# Altium integrated library Altera MAX V.IntLib: 184 symbols (part 9 of 16)
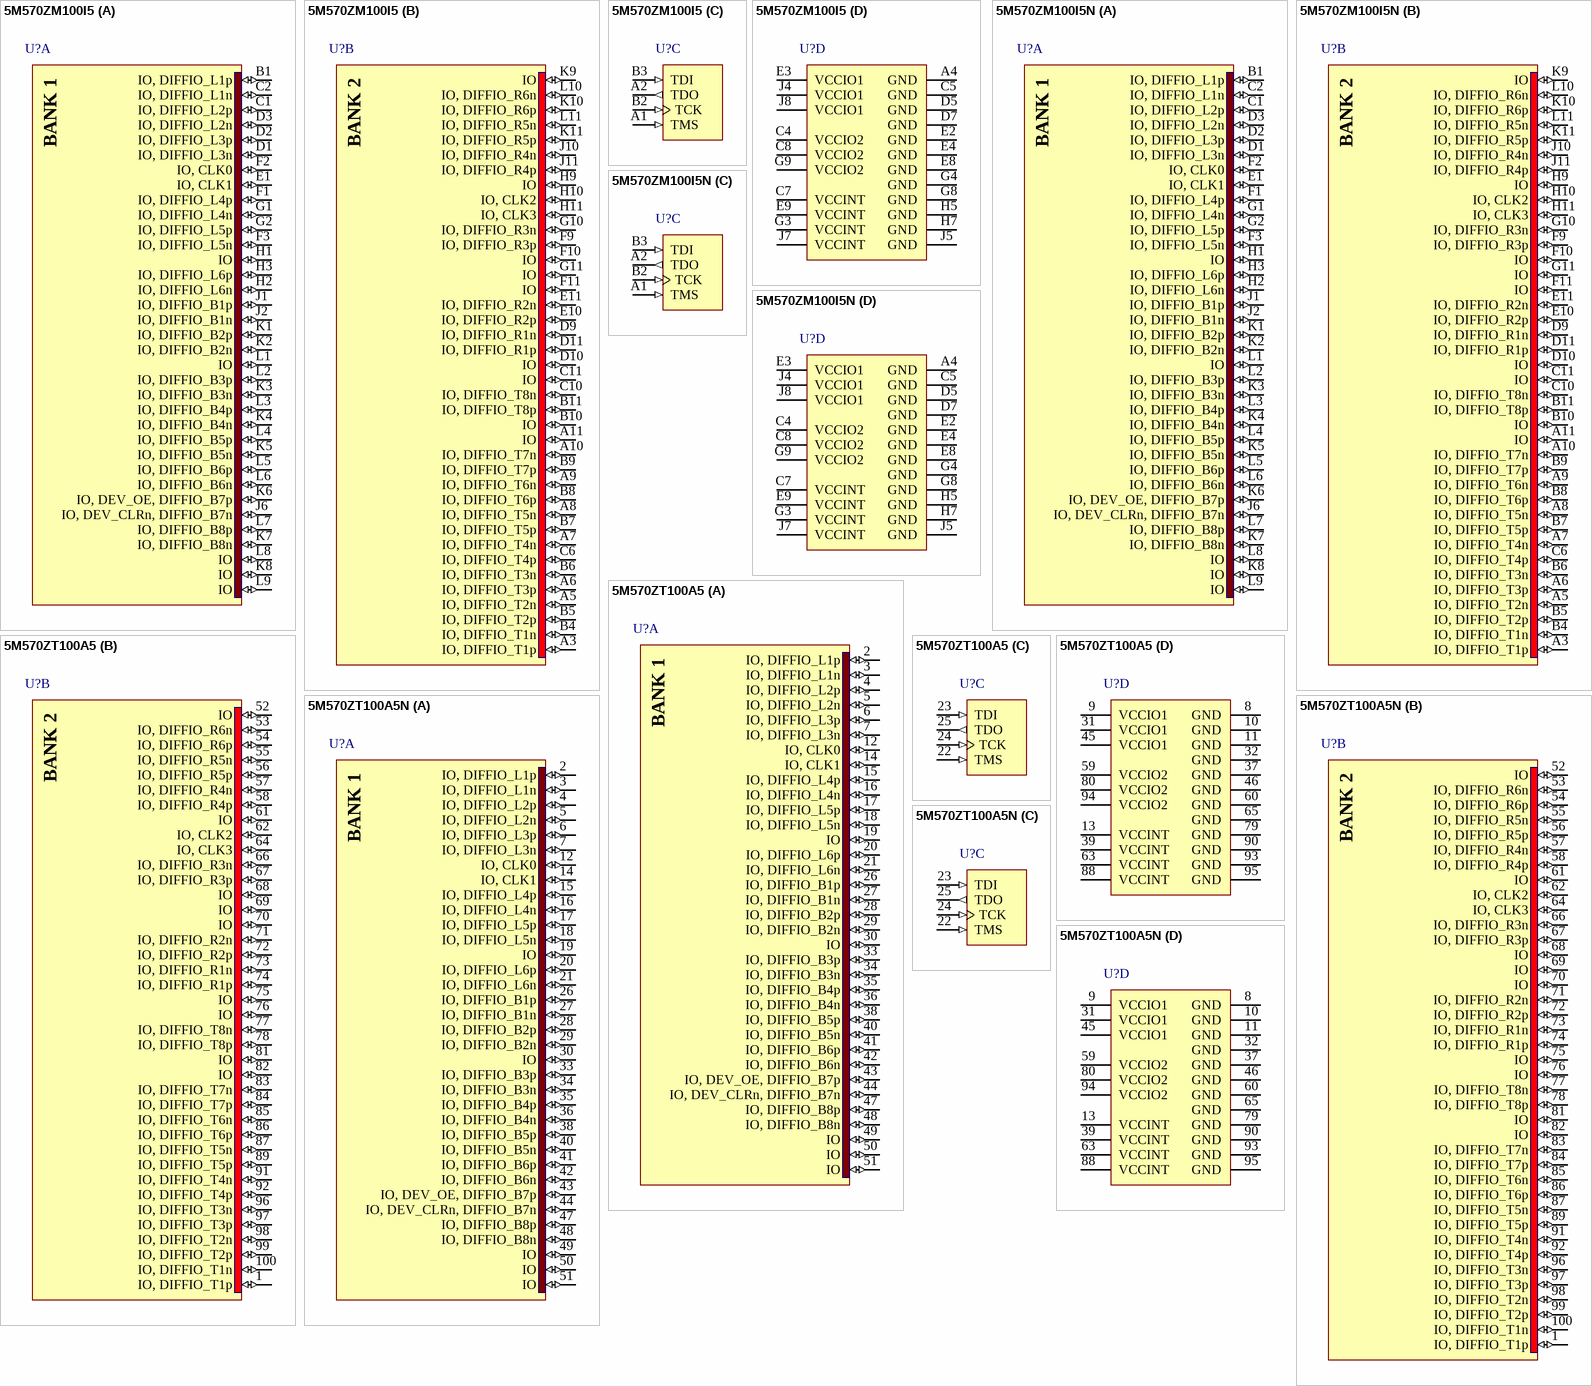
[diagram p85: symbols 5M570ZM100I5 to 5M570ZT100A5N]

## 5M570ZM100I5
designator U?
MAX V 1.8V CPLD, 74 IOs, 570 Logic Elements, 100-Pin MBGA, Industrial Temperature, Speed Grade 5; DatasheetVersion: ver1.2, May-2011; PackageVersion: ver1.0, Jul-2011; PackageReference: MBGA100_A-120; PackageDescription: 100-Pin Micro FineLine Ball-Grid Array (MBGA100) - Wire Bond - A:1.20; Code_JEDEC: MO-195-AC; ComponentLink1Description: Manufacturer URL; ComponentLink1URL: http://www.altera.com/; ComponentLink2Description: Datasheet; ComponentLink2URL: http://www.altera.com/literature/hb/max-v/max5_handbook.pdf; ComponentLink3Description: MAX V Device Pin-Out files; ComponentLink3URL: http://www.altera.com/literature/lit-dp.jsp?category=MAX%205&showspreadsheet=y; ComponentLink4Description: Package Specification; ComponentLink4URL: http://www.altera.com/devicepackaging/04R00345-01.pdf
footprint MBGA100_A-120 (BGA, 100-Leads, Body 6x6mm, Pitch 0.5mm)
part A pins: B1 IO, DIFFIO_L1p (io), C1 IO, DIFFIO_L2p (io), C2 IO, DIFFIO_L1n (io), D1 IO, DIFFIO_L3n (io), D2 IO, DIFFIO_L3p (io), D3 IO, DIFFIO_L2n (io), E1 IO, CLK1 (io), F1 IO, DIFFIO_L4p (io), F2 IO, CLK0 (io), F3 IO, DIFFIO_L5n (io), G1 IO, DIFFIO_L4n (io), G2 IO, DIFFIO_L5p (io), H1 IO (io), H2 IO, DIFFIO_L6n (io), H3 IO, DIFFIO_L6p (io), J1 IO, DIFFIO_B1p (io), J2 IO, DIFFIO_B1n (io), J6 IO, DEV_CLRn, DIFFIO_B7n (io), K1 IO, DIFFIO_B2p (io), K2 IO, DIFFIO_B2n (io), K3 IO, DIFFIO_B3n (io), K4 IO, DIFFIO_B4n (io), K5 IO, DIFFIO_B5n (io), K6 IO, DEV_OE, DIFFIO_B7p (io), K7 IO, DIFFIO_B8n (io), K8 IO (io), L1 IO (io), L2 IO, DIFFIO_B3p (io), L3 IO, DIFFIO_B4p (io), L4 IO, DIFFIO_B5p (io), L5 IO, DIFFIO_B6p (io), L6 IO, DIFFIO_B6n (io), L7 IO, DIFFIO_B8p (io), L8 IO (io), L9 IO (io)
part B pins: A3 IO, DIFFIO_T1p (io), A5 IO, DIFFIO_T2n (io), A6 IO, DIFFIO_T3p (io), A7 IO, DIFFIO_T4n (io), A8 IO, DIFFIO_T5n (io), A9 IO, DIFFIO_T6n (io), A10 IO, DIFFIO_T7n (io), A11 IO (io), B4 IO, DIFFIO_T1n (io), B5 IO, DIFFIO_T2p (io), B6 IO, DIFFIO_T3n (io), B7 IO, DIFFIO_T5p (io), B8 IO, DIFFIO_T6p (io), B9 IO, DIFFIO_T7p (io), B10 IO (io), B11 IO, DIFFIO_T8p (io), C6 IO, DIFFIO_T4p (io), C10 IO, DIFFIO_T8n (io), C11 IO (io), D9 IO, DIFFIO_R1n (io), D10 IO (io), D11 IO, DIFFIO_R1p (io), E10 IO, DIFFIO_R2p (io), E11 IO, DIFFIO_R2n (io), F9 IO, DIFFIO_R3p (io), F10 IO (io), F11 IO (io), G10 IO, DIFFIO_R3n (io), G11 IO (io), H9 IO (io), H10 IO, CLK2 (io), H11 IO, CLK3 (io), J10 IO, DIFFIO_R4n (io), J11 IO, DIFFIO_R4p (io), K9 IO (io), K10 IO, DIFFIO_R6p (io), K11 IO, DIFFIO_R5p (io), L10 IO, DIFFIO_R6n (io), L11 IO, DIFFIO_R5n (io)
part C pins: A1 TMS (in), A2 TDO (out), B2 TCK (in), B3 TDI (in)
part D pins: A4 GND (power), C4 VCCIO2 (power), C5 GND (power), C7 VCCINT (power), C8 VCCIO2 (power), D5 GND (power), D7 GND (power), E2 GND (power), E3 VCCIO1 (power), E4 GND (power), E8 GND (power), E9 VCCINT (power), G3 VCCINT (power), G4 GND (power), G8 GND (power), G9 VCCIO2 (power), H5 GND (power), H7 GND (power), J4 VCCIO1 (power), J5 GND (power), J7 VCCINT (power), J8 VCCIO1 (power)
part A text: BANK 1
part B text: BANK 2

## 5M570ZM100I5N
designator U?
MAX V 1.8V CPLD, 74 IOs, 570 Logic Elements, 100-Pin MBGA, Industrial Temperature, Speed Grade 5, Pb-Free; DatasheetVersion: ver1.2, May-2011; PackageVersion: ver1.0, Jul-2011; PackageReference: MBGA100_A-120; PackageDescription: 100-Pin Micro FineLine Ball-Grid Array (MBGA100) - Wire Bond - A:1.20; Code_JEDEC: MO-195-AC; ComponentLink1Description: Manufacturer URL; ComponentLink1URL: http://www.altera.com/; ComponentLink2Description: Datasheet; ComponentLink2URL: http://www.altera.com/literature/hb/max-v/max5_handbook.pdf; ComponentLink3Description: MAX V Device Pin-Out files; ComponentLink3URL: http://www.altera.com/literature/lit-dp.jsp?category=MAX%205&showspreadsheet=y; ComponentLink4Description: Package Specification; ComponentLink4URL: http://www.altera.com/devicepackaging/04R00345-01.pdf
footprint MBGA100_A-120 (BGA, 100-Leads, Body 6x6mm, Pitch 0.5mm)
part A pins: B1 IO, DIFFIO_L1p (io), C1 IO, DIFFIO_L2p (io), C2 IO, DIFFIO_L1n (io), D1 IO, DIFFIO_L3n (io), D2 IO, DIFFIO_L3p (io), D3 IO, DIFFIO_L2n (io), E1 IO, CLK1 (io), F1 IO, DIFFIO_L4p (io), F2 IO, CLK0 (io), F3 IO, DIFFIO_L5n (io), G1 IO, DIFFIO_L4n (io), G2 IO, DIFFIO_L5p (io), H1 IO (io), H2 IO, DIFFIO_L6n (io), H3 IO, DIFFIO_L6p (io), J1 IO, DIFFIO_B1p (io), J2 IO, DIFFIO_B1n (io), J6 IO, DEV_CLRn, DIFFIO_B7n (io), K1 IO, DIFFIO_B2p (io), K2 IO, DIFFIO_B2n (io), K3 IO, DIFFIO_B3n (io), K4 IO, DIFFIO_B4n (io), K5 IO, DIFFIO_B5n (io), K6 IO, DEV_OE, DIFFIO_B7p (io), K7 IO, DIFFIO_B8n (io), K8 IO (io), L1 IO (io), L2 IO, DIFFIO_B3p (io), L3 IO, DIFFIO_B4p (io), L4 IO, DIFFIO_B5p (io), L5 IO, DIFFIO_B6p (io), L6 IO, DIFFIO_B6n (io), L7 IO, DIFFIO_B8p (io), L8 IO (io), L9 IO (io)
part B pins: A3 IO, DIFFIO_T1p (io), A5 IO, DIFFIO_T2n (io), A6 IO, DIFFIO_T3p (io), A7 IO, DIFFIO_T4n (io), A8 IO, DIFFIO_T5n (io), A9 IO, DIFFIO_T6n (io), A10 IO, DIFFIO_T7n (io), A11 IO (io), B4 IO, DIFFIO_T1n (io), B5 IO, DIFFIO_T2p (io), B6 IO, DIFFIO_T3n (io), B7 IO, DIFFIO_T5p (io), B8 IO, DIFFIO_T6p (io), B9 IO, DIFFIO_T7p (io), B10 IO (io), B11 IO, DIFFIO_T8p (io), C6 IO, DIFFIO_T4p (io), C10 IO, DIFFIO_T8n (io), C11 IO (io), D9 IO, DIFFIO_R1n (io), D10 IO (io), D11 IO, DIFFIO_R1p (io), E10 IO, DIFFIO_R2p (io), E11 IO, DIFFIO_R2n (io), F9 IO, DIFFIO_R3p (io), F10 IO (io), F11 IO (io), G10 IO, DIFFIO_R3n (io), G11 IO (io), H9 IO (io), H10 IO, CLK2 (io), H11 IO, CLK3 (io), J10 IO, DIFFIO_R4n (io), J11 IO, DIFFIO_R4p (io), K9 IO (io), K10 IO, DIFFIO_R6p (io), K11 IO, DIFFIO_R5p (io), L10 IO, DIFFIO_R6n (io), L11 IO, DIFFIO_R5n (io)
part C pins: A1 TMS (in), A2 TDO (out), B2 TCK (in), B3 TDI (in)
part D pins: A4 GND (power), C4 VCCIO2 (power), C5 GND (power), C7 VCCINT (power), C8 VCCIO2 (power), D5 GND (power), D7 GND (power), E2 GND (power), E3 VCCIO1 (power), E4 GND (power), E8 GND (power), E9 VCCINT (power), G3 VCCINT (power), G4 GND (power), G8 GND (power), G9 VCCIO2 (power), H5 GND (power), H7 GND (power), J4 VCCIO1 (power), J5 GND (power), J7 VCCINT (power), J8 VCCIO1 (power)
part A text: BANK 1
part B text: BANK 2

## 5M570ZT100A5
designator U?
MAX V 1.8V CPLD, 74 IOs, 570 Logic Elements, 100-Pin TQFP, Automotive Temperature, Speed Grade 5; DatasheetVersion: ver1.2, May-2011; PackageVersion: ver1.0, Jul-2011; PackageReference: TQFP100_A-120; PackageDescription: 100-Pin Plastic Thin Quad Flat Pack (TQFP) - Wire Bond - A:1.20; Code_JEDEC: MS-029-AED; ComponentLink1Description: Manufacturer URL; ComponentLink1URL: http://www.altera.com/; ComponentLink2Description: Datasheet; ComponentLink2URL: http://www.altera.com/literature/hb/max-v/max5_handbook.pdf; ComponentLink3Description: MAX V Device Pin-Out files; ComponentLink3URL: http://www.altera.com/literature/lit-dp.jsp?category=MAX%205&showspreadsheet=y; ComponentLink4Description: Package Specification; ComponentLink4URL: http://www.altera.com/devicepackaging/04R00365-01.pdf
footprint TQFP100_A-120_N (Thin QFP, 100-Leads, Body 14x14mm, Pitch 0.5mm, IPC Medium Density)
footprint TQFP100_A-120_L (Thin QFP, 100-Leads, Body 14x14mm, Pitch 0.5mm, IPC High Density)
footprint TQFP100_A-120_M (Thin QFP, 100-Leads, Body 14x14mm, Pitch 0.5mm, IPC Low Density)
part A pins: 2 IO, DIFFIO_L1p (io), 3 IO, DIFFIO_L1n (io), 4 IO, DIFFIO_L2p (io), 5 IO, DIFFIO_L2n (io), 6 IO, DIFFIO_L3p (io), 7 IO, DIFFIO_L3n (io), 12 IO, CLK0 (io), 14 IO, CLK1 (io), 15 IO, DIFFIO_L4p (io), 16 IO, DIFFIO_L4n (io), 17 IO, DIFFIO_L5p (io), 18 IO, DIFFIO_L5n (io), 19 IO (io), 20 IO, DIFFIO_L6p (io), 21 IO, DIFFIO_L6n (io), 26 IO, DIFFIO_B1p (io), 27 IO, DIFFIO_B1n (io), 28 IO, DIFFIO_B2p (io), 29 IO, DIFFIO_B2n (io), 30 IO (io), 33 IO, DIFFIO_B3p (io), 34 IO, DIFFIO_B3n (io), 35 IO, DIFFIO_B4p (io), 36 IO, DIFFIO_B4n (io), 38 IO, DIFFIO_B5p (io), 40 IO, DIFFIO_B5n (io), 41 IO, DIFFIO_B6p (io), 42 IO, DIFFIO_B6n (io), 43 IO, DEV_OE, DIFFIO_B7p (io), 44 IO, DEV_CLRn, DIFFIO_B7n (io), 47 IO, DIFFIO_B8p (io), 48 IO, DIFFIO_B8n (io), 49 IO (io), 50 IO (io), 51 IO (io)
part B pins: 1 IO, DIFFIO_T1p (io), 52 IO (io), 53 IO, DIFFIO_R6n (io), 54 IO, DIFFIO_R6p (io), 55 IO, DIFFIO_R5n (io), 56 IO, DIFFIO_R5p (io), 57 IO, DIFFIO_R4n (io), 58 IO, DIFFIO_R4p (io), 61 IO (io), 62 IO, CLK2 (io), 64 IO, CLK3 (io), 66 IO, DIFFIO_R3n (io), 67 IO, DIFFIO_R3p (io), 68 IO (io), 69 IO (io), 70 IO (io), 71 IO, DIFFIO_R2n (io), 72 IO, DIFFIO_R2p (io), 73 IO, DIFFIO_R1n (io), 74 IO, DIFFIO_R1p (io), 75 IO (io), 76 IO (io), 77 IO, DIFFIO_T8n (io), 78 IO, DIFFIO_T8p (io), 81 IO (io), 82 IO (io), 83 IO, DIFFIO_T7n (io), 84 IO, DIFFIO_T7p (io), 85 IO, DIFFIO_T6n (io), 86 IO, DIFFIO_T6p (io), 87 IO, DIFFIO_T5n (io), 89 IO, DIFFIO_T5p (io), 91 IO, DIFFIO_T4n (io), 92 IO, DIFFIO_T4p (io), 96 IO, DIFFIO_T3n (io), 97 IO, DIFFIO_T3p (io), 98 IO, DIFFIO_T2n (io), 99 IO, DIFFIO_T2p (io), 100 IO, DIFFIO_T1n (io)
part C pins: 22 TMS (in), 23 TDI (in), 24 TCK (in), 25 TDO (out)
part D pins: 8 GND (power), 9 VCCIO1 (power), 10 GND (power), 11 GND (power), 13 VCCINT (power), 31 VCCIO1 (power), 32 GND (power), 37 GND (power), 39 VCCINT (power), 45 VCCIO1 (power), 46 GND (power), 59 VCCIO2 (power), 60 GND (power), 63 VCCINT (power), 65 GND (power), 79 GND (power), 80 VCCIO2 (power), 88 VCCINT (power), 90 GND (power), 93 GND (power), 94 VCCIO2 (power), 95 GND (power)
part A text: BANK 1
part B text: BANK 2

## 5M570ZT100A5N
designator U?
MAX V 1.8V CPLD, 74 IOs, 570 Logic Elements, 100-Pin TQFP, Automotive Temperature, Speed Grade 5, Pb-Free; DatasheetVersion: ver1.2, May-2011; PackageVersion: ver1.0, Jul-2011; PackageReference: TQFP100_A-120; PackageDescription: 100-Pin Plastic Thin Quad Flat Pack (TQFP) - Wire Bond - A:1.20; Code_JEDEC: MS-029-AED; ComponentLink1Description: Manufacturer URL; ComponentLink1URL: http://www.altera.com/; ComponentLink2Description: Datasheet; ComponentLink2URL: http://www.altera.com/literature/hb/max-v/max5_handbook.pdf; ComponentLink3Description: MAX V Device Pin-Out files; ComponentLink3URL: http://www.altera.com/literature/lit-dp.jsp?category=MAX%205&showspreadsheet=y; ComponentLink4Description: Package Specification; ComponentLink4URL: http://www.altera.com/devicepackaging/04R00365-01.pdf
footprint TQFP100_A-120_N (Thin QFP, 100-Leads, Body 14x14mm, Pitch 0.5mm, IPC Medium Density)
footprint TQFP100_A-120_L (Thin QFP, 100-Leads, Body 14x14mm, Pitch 0.5mm, IPC High Density)
footprint TQFP100_A-120_M (Thin QFP, 100-Leads, Body 14x14mm, Pitch 0.5mm, IPC Low Density)
part A pins: 2 IO, DIFFIO_L1p (io), 3 IO, DIFFIO_L1n (io), 4 IO, DIFFIO_L2p (io), 5 IO, DIFFIO_L2n (io), 6 IO, DIFFIO_L3p (io), 7 IO, DIFFIO_L3n (io), 12 IO, CLK0 (io), 14 IO, CLK1 (io), 15 IO, DIFFIO_L4p (io), 16 IO, DIFFIO_L4n (io), 17 IO, DIFFIO_L5p (io), 18 IO, DIFFIO_L5n (io), 19 IO (io), 20 IO, DIFFIO_L6p (io), 21 IO, DIFFIO_L6n (io), 26 IO, DIFFIO_B1p (io), 27 IO, DIFFIO_B1n (io), 28 IO, DIFFIO_B2p (io), 29 IO, DIFFIO_B2n (io), 30 IO (io), 33 IO, DIFFIO_B3p (io), 34 IO, DIFFIO_B3n (io), 35 IO, DIFFIO_B4p (io), 36 IO, DIFFIO_B4n (io), 38 IO, DIFFIO_B5p (io), 40 IO, DIFFIO_B5n (io), 41 IO, DIFFIO_B6p (io), 42 IO, DIFFIO_B6n (io), 43 IO, DEV_OE, DIFFIO_B7p (io), 44 IO, DEV_CLRn, DIFFIO_B7n (io), 47 IO, DIFFIO_B8p (io), 48 IO, DIFFIO_B8n (io), 49 IO (io), 50 IO (io), 51 IO (io)
part B pins: 1 IO, DIFFIO_T1p (io), 52 IO (io), 53 IO, DIFFIO_R6n (io), 54 IO, DIFFIO_R6p (io), 55 IO, DIFFIO_R5n (io), 56 IO, DIFFIO_R5p (io), 57 IO, DIFFIO_R4n (io), 58 IO, DIFFIO_R4p (io), 61 IO (io), 62 IO, CLK2 (io), 64 IO, CLK3 (io), 66 IO, DIFFIO_R3n (io), 67 IO, DIFFIO_R3p (io), 68 IO (io), 69 IO (io), 70 IO (io), 71 IO, DIFFIO_R2n (io), 72 IO, DIFFIO_R2p (io), 73 IO, DIFFIO_R1n (io), 74 IO, DIFFIO_R1p (io), 75 IO (io), 76 IO (io), 77 IO, DIFFIO_T8n (io), 78 IO, DIFFIO_T8p (io), 81 IO (io), 82 IO (io), 83 IO, DIFFIO_T7n (io), 84 IO, DIFFIO_T7p (io), 85 IO, DIFFIO_T6n (io), 86 IO, DIFFIO_T6p (io), 87 IO, DIFFIO_T5n (io), 89 IO, DIFFIO_T5p (io), 91 IO, DIFFIO_T4n (io), 92 IO, DIFFIO_T4p (io), 96 IO, DIFFIO_T3n (io), 97 IO, DIFFIO_T3p (io), 98 IO, DIFFIO_T2n (io), 99 IO, DIFFIO_T2p (io), 100 IO, DIFFIO_T1n (io)
part C pins: 22 TMS (in), 23 TDI (in), 24 TCK (in), 25 TDO (out)
part D pins: 8 GND (power), 9 VCCIO1 (power), 10 GND (power), 11 GND (power), 13 VCCINT (power), 31 VCCIO1 (power), 32 GND (power), 37 GND (power), 39 VCCINT (power), 45 VCCIO1 (power), 46 GND (power), 59 VCCIO2 (power), 60 GND (power), 63 VCCINT (power), 65 GND (power), 79 GND (power), 80 VCCIO2 (power), 88 VCCINT (power), 90 GND (power), 93 GND (power), 94 VCCIO2 (power), 95 GND (power)
part A text: BANK 1
part B text: BANK 2

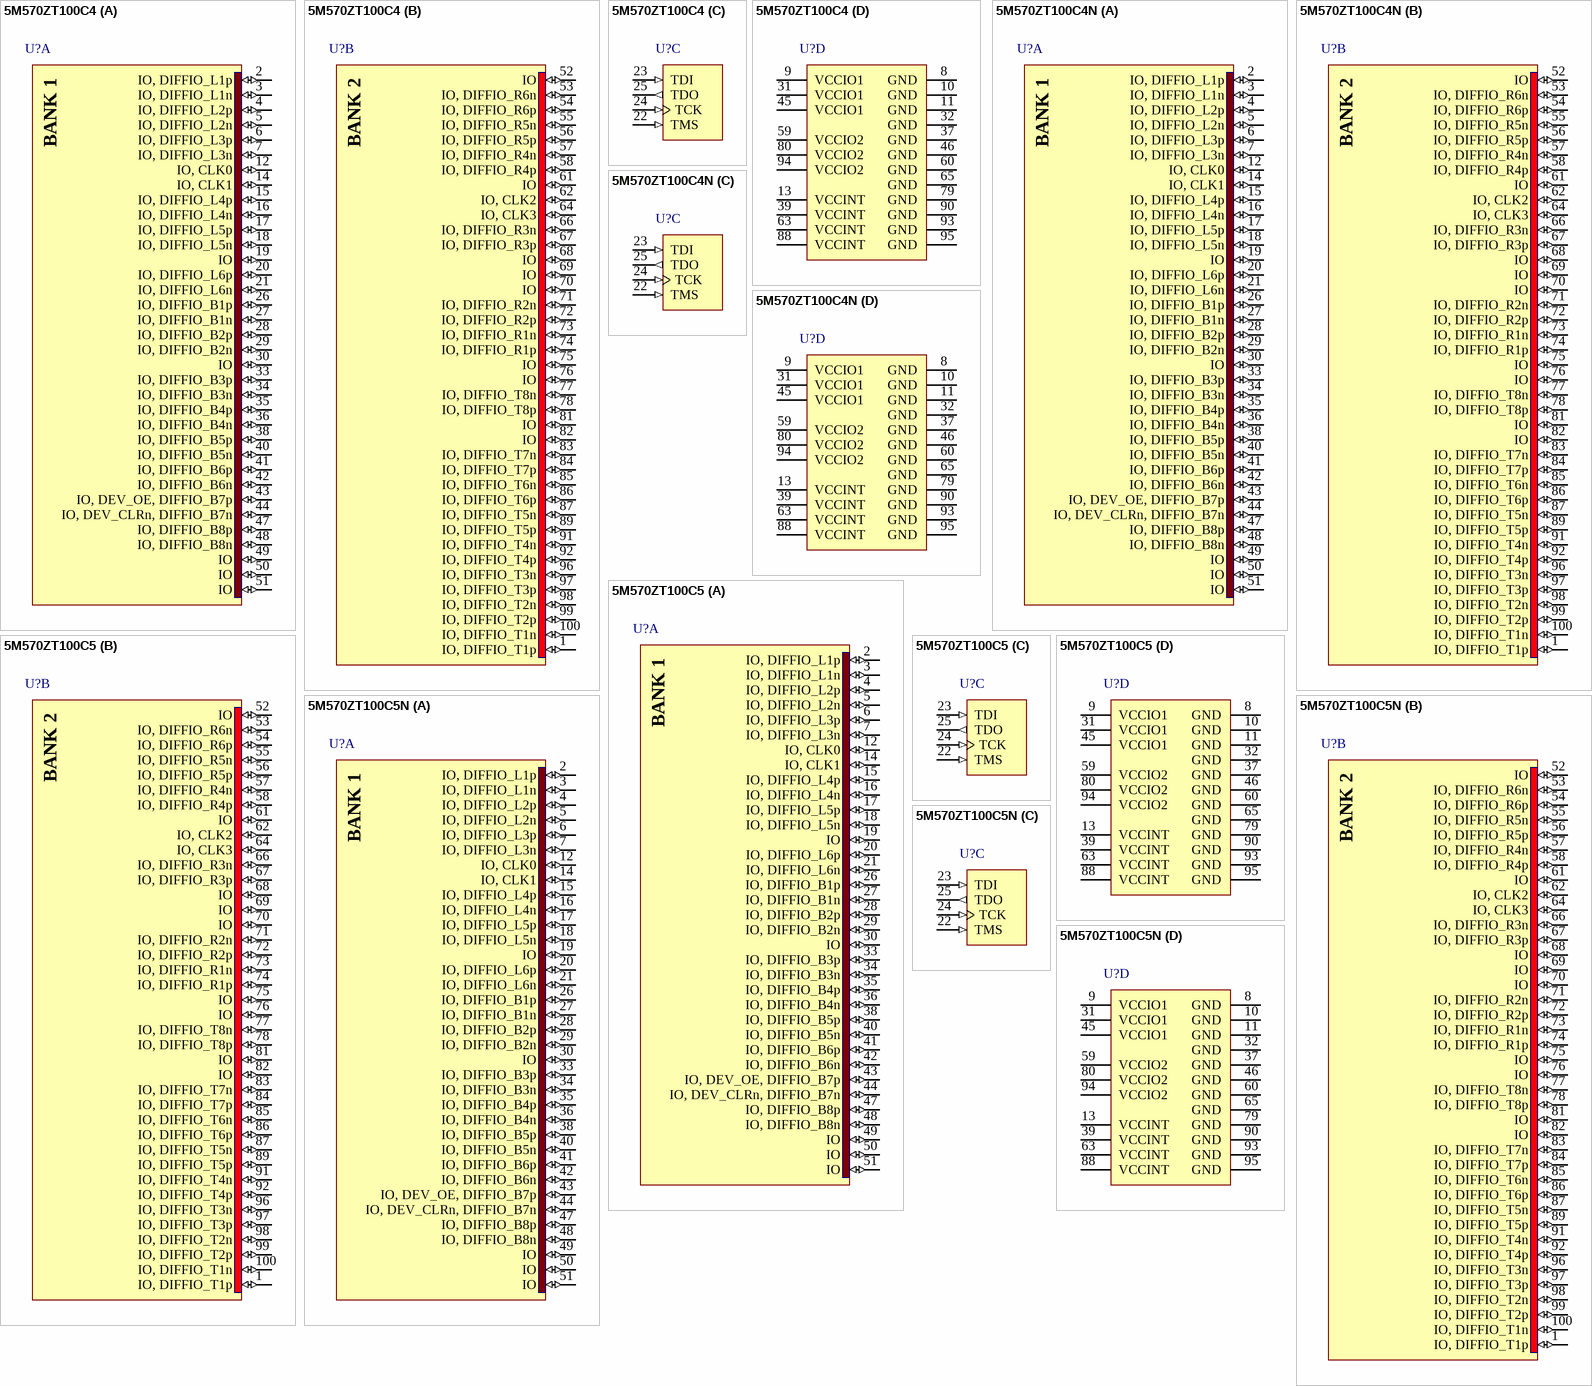
[diagram p37: symbols 5M570ZT100C4 to 5M570ZT100C5N]

## 5M570ZT100C4
designator U?
MAX V 1.8V CPLD, 74 IOs, 570 Logic Elements, 100-Pin TQFP, Commercial Temperature, Speed Grade 4; DatasheetVersion: ver1.2, May-2011; PackageVersion: ver1.0, Jul-2011; PackageReference: TQFP100_A-120; PackageDescription: 100-Pin Plastic Thin Quad Flat Pack (TQFP) - Wire Bond - A:1.20; Code_JEDEC: MS-029-AED; ComponentLink1Description: Manufacturer URL; ComponentLink1URL: http://www.altera.com/; ComponentLink2Description: Datasheet; ComponentLink2URL: http://www.altera.com/literature/hb/max-v/max5_handbook.pdf; ComponentLink3Description: MAX V Device Pin-Out files; ComponentLink3URL: http://www.altera.com/literature/lit-dp.jsp?category=MAX%205&showspreadsheet=y; ComponentLink4Description: Package Specification; ComponentLink4URL: http://www.altera.com/devicepackaging/04R00365-01.pdf
footprint TQFP100_A-120_N (Thin QFP, 100-Leads, Body 14x14mm, Pitch 0.5mm, IPC Medium Density)
footprint TQFP100_A-120_L (Thin QFP, 100-Leads, Body 14x14mm, Pitch 0.5mm, IPC High Density)
footprint TQFP100_A-120_M (Thin QFP, 100-Leads, Body 14x14mm, Pitch 0.5mm, IPC Low Density)
part A pins: 2 IO, DIFFIO_L1p (io), 3 IO, DIFFIO_L1n (io), 4 IO, DIFFIO_L2p (io), 5 IO, DIFFIO_L2n (io), 6 IO, DIFFIO_L3p (io), 7 IO, DIFFIO_L3n (io), 12 IO, CLK0 (io), 14 IO, CLK1 (io), 15 IO, DIFFIO_L4p (io), 16 IO, DIFFIO_L4n (io), 17 IO, DIFFIO_L5p (io), 18 IO, DIFFIO_L5n (io), 19 IO (io), 20 IO, DIFFIO_L6p (io), 21 IO, DIFFIO_L6n (io), 26 IO, DIFFIO_B1p (io), 27 IO, DIFFIO_B1n (io), 28 IO, DIFFIO_B2p (io), 29 IO, DIFFIO_B2n (io), 30 IO (io), 33 IO, DIFFIO_B3p (io), 34 IO, DIFFIO_B3n (io), 35 IO, DIFFIO_B4p (io), 36 IO, DIFFIO_B4n (io), 38 IO, DIFFIO_B5p (io), 40 IO, DIFFIO_B5n (io), 41 IO, DIFFIO_B6p (io), 42 IO, DIFFIO_B6n (io), 43 IO, DEV_OE, DIFFIO_B7p (io), 44 IO, DEV_CLRn, DIFFIO_B7n (io), 47 IO, DIFFIO_B8p (io), 48 IO, DIFFIO_B8n (io), 49 IO (io), 50 IO (io), 51 IO (io)
part B pins: 1 IO, DIFFIO_T1p (io), 52 IO (io), 53 IO, DIFFIO_R6n (io), 54 IO, DIFFIO_R6p (io), 55 IO, DIFFIO_R5n (io), 56 IO, DIFFIO_R5p (io), 57 IO, DIFFIO_R4n (io), 58 IO, DIFFIO_R4p (io), 61 IO (io), 62 IO, CLK2 (io), 64 IO, CLK3 (io), 66 IO, DIFFIO_R3n (io), 67 IO, DIFFIO_R3p (io), 68 IO (io), 69 IO (io), 70 IO (io), 71 IO, DIFFIO_R2n (io), 72 IO, DIFFIO_R2p (io), 73 IO, DIFFIO_R1n (io), 74 IO, DIFFIO_R1p (io), 75 IO (io), 76 IO (io), 77 IO, DIFFIO_T8n (io), 78 IO, DIFFIO_T8p (io), 81 IO (io), 82 IO (io), 83 IO, DIFFIO_T7n (io), 84 IO, DIFFIO_T7p (io), 85 IO, DIFFIO_T6n (io), 86 IO, DIFFIO_T6p (io), 87 IO, DIFFIO_T5n (io), 89 IO, DIFFIO_T5p (io), 91 IO, DIFFIO_T4n (io), 92 IO, DIFFIO_T4p (io), 96 IO, DIFFIO_T3n (io), 97 IO, DIFFIO_T3p (io), 98 IO, DIFFIO_T2n (io), 99 IO, DIFFIO_T2p (io), 100 IO, DIFFIO_T1n (io)
part C pins: 22 TMS (in), 23 TDI (in), 24 TCK (in), 25 TDO (out)
part D pins: 8 GND (power), 9 VCCIO1 (power), 10 GND (power), 11 GND (power), 13 VCCINT (power), 31 VCCIO1 (power), 32 GND (power), 37 GND (power), 39 VCCINT (power), 45 VCCIO1 (power), 46 GND (power), 59 VCCIO2 (power), 60 GND (power), 63 VCCINT (power), 65 GND (power), 79 GND (power), 80 VCCIO2 (power), 88 VCCINT (power), 90 GND (power), 93 GND (power), 94 VCCIO2 (power), 95 GND (power)
part A text: BANK 1
part B text: BANK 2

## 5M570ZT100C4N
designator U?
MAX V 1.8V CPLD, 74 IOs, 570 Logic Elements, 100-Pin TQFP, Commercial Temperature, Speed Grade 4, Pb-Free; DatasheetVersion: ver1.2, May-2011; PackageVersion: ver1.0, Jul-2011; PackageReference: TQFP100_A-120; PackageDescription: 100-Pin Plastic Thin Quad Flat Pack (TQFP) - Wire Bond - A:1.20; Code_JEDEC: MS-029-AED; ComponentLink1Description: Manufacturer URL; ComponentLink1URL: http://www.altera.com/; ComponentLink2Description: Datasheet; ComponentLink2URL: http://www.altera.com/literature/hb/max-v/max5_handbook.pdf; ComponentLink3Description: MAX V Device Pin-Out files; ComponentLink3URL: http://www.altera.com/literature/lit-dp.jsp?category=MAX%205&showspreadsheet=y; ComponentLink4Description: Package Specification; ComponentLink4URL: http://www.altera.com/devicepackaging/04R00365-01.pdf
footprint TQFP100_A-120_N (Thin QFP, 100-Leads, Body 14x14mm, Pitch 0.5mm, IPC Medium Density)
footprint TQFP100_A-120_L (Thin QFP, 100-Leads, Body 14x14mm, Pitch 0.5mm, IPC High Density)
footprint TQFP100_A-120_M (Thin QFP, 100-Leads, Body 14x14mm, Pitch 0.5mm, IPC Low Density)
part A pins: 2 IO, DIFFIO_L1p (io), 3 IO, DIFFIO_L1n (io), 4 IO, DIFFIO_L2p (io), 5 IO, DIFFIO_L2n (io), 6 IO, DIFFIO_L3p (io), 7 IO, DIFFIO_L3n (io), 12 IO, CLK0 (io), 14 IO, CLK1 (io), 15 IO, DIFFIO_L4p (io), 16 IO, DIFFIO_L4n (io), 17 IO, DIFFIO_L5p (io), 18 IO, DIFFIO_L5n (io), 19 IO (io), 20 IO, DIFFIO_L6p (io), 21 IO, DIFFIO_L6n (io), 26 IO, DIFFIO_B1p (io), 27 IO, DIFFIO_B1n (io), 28 IO, DIFFIO_B2p (io), 29 IO, DIFFIO_B2n (io), 30 IO (io), 33 IO, DIFFIO_B3p (io), 34 IO, DIFFIO_B3n (io), 35 IO, DIFFIO_B4p (io), 36 IO, DIFFIO_B4n (io), 38 IO, DIFFIO_B5p (io), 40 IO, DIFFIO_B5n (io), 41 IO, DIFFIO_B6p (io), 42 IO, DIFFIO_B6n (io), 43 IO, DEV_OE, DIFFIO_B7p (io), 44 IO, DEV_CLRn, DIFFIO_B7n (io), 47 IO, DIFFIO_B8p (io), 48 IO, DIFFIO_B8n (io), 49 IO (io), 50 IO (io), 51 IO (io)
part B pins: 1 IO, DIFFIO_T1p (io), 52 IO (io), 53 IO, DIFFIO_R6n (io), 54 IO, DIFFIO_R6p (io), 55 IO, DIFFIO_R5n (io), 56 IO, DIFFIO_R5p (io), 57 IO, DIFFIO_R4n (io), 58 IO, DIFFIO_R4p (io), 61 IO (io), 62 IO, CLK2 (io), 64 IO, CLK3 (io), 66 IO, DIFFIO_R3n (io), 67 IO, DIFFIO_R3p (io), 68 IO (io), 69 IO (io), 70 IO (io), 71 IO, DIFFIO_R2n (io), 72 IO, DIFFIO_R2p (io), 73 IO, DIFFIO_R1n (io), 74 IO, DIFFIO_R1p (io), 75 IO (io), 76 IO (io), 77 IO, DIFFIO_T8n (io), 78 IO, DIFFIO_T8p (io), 81 IO (io), 82 IO (io), 83 IO, DIFFIO_T7n (io), 84 IO, DIFFIO_T7p (io), 85 IO, DIFFIO_T6n (io), 86 IO, DIFFIO_T6p (io), 87 IO, DIFFIO_T5n (io), 89 IO, DIFFIO_T5p (io), 91 IO, DIFFIO_T4n (io), 92 IO, DIFFIO_T4p (io), 96 IO, DIFFIO_T3n (io), 97 IO, DIFFIO_T3p (io), 98 IO, DIFFIO_T2n (io), 99 IO, DIFFIO_T2p (io), 100 IO, DIFFIO_T1n (io)
part C pins: 22 TMS (in), 23 TDI (in), 24 TCK (in), 25 TDO (out)
part D pins: 8 GND (power), 9 VCCIO1 (power), 10 GND (power), 11 GND (power), 13 VCCINT (power), 31 VCCIO1 (power), 32 GND (power), 37 GND (power), 39 VCCINT (power), 45 VCCIO1 (power), 46 GND (power), 59 VCCIO2 (power), 60 GND (power), 63 VCCINT (power), 65 GND (power), 79 GND (power), 80 VCCIO2 (power), 88 VCCINT (power), 90 GND (power), 93 GND (power), 94 VCCIO2 (power), 95 GND (power)
part A text: BANK 1
part B text: BANK 2

## 5M570ZT100C5
designator U?
MAX V 1.8V CPLD, 74 IOs, 570 Logic Elements, 100-Pin TQFP, Commercial Temperature, Speed Grade 5; DatasheetVersion: ver1.2, May-2011; PackageVersion: ver1.0, Jul-2011; PackageReference: TQFP100_A-120; PackageDescription: 100-Pin Plastic Thin Quad Flat Pack (TQFP) - Wire Bond - A:1.20; Code_JEDEC: MS-029-AED; ComponentLink1Description: Manufacturer URL; ComponentLink1URL: http://www.altera.com/; ComponentLink2Description: Datasheet; ComponentLink2URL: http://www.altera.com/literature/hb/max-v/max5_handbook.pdf; ComponentLink3Description: MAX V Device Pin-Out files; ComponentLink3URL: http://www.altera.com/literature/lit-dp.jsp?category=MAX%205&showspreadsheet=y; ComponentLink4Description: Package Specification; ComponentLink4URL: http://www.altera.com/devicepackaging/04R00365-01.pdf
footprint TQFP100_A-120_N (Thin QFP, 100-Leads, Body 14x14mm, Pitch 0.5mm, IPC Medium Density)
footprint TQFP100_A-120_L (Thin QFP, 100-Leads, Body 14x14mm, Pitch 0.5mm, IPC High Density)
footprint TQFP100_A-120_M (Thin QFP, 100-Leads, Body 14x14mm, Pitch 0.5mm, IPC Low Density)
part A pins: 2 IO, DIFFIO_L1p (io), 3 IO, DIFFIO_L1n (io), 4 IO, DIFFIO_L2p (io), 5 IO, DIFFIO_L2n (io), 6 IO, DIFFIO_L3p (io), 7 IO, DIFFIO_L3n (io), 12 IO, CLK0 (io), 14 IO, CLK1 (io), 15 IO, DIFFIO_L4p (io), 16 IO, DIFFIO_L4n (io), 17 IO, DIFFIO_L5p (io), 18 IO, DIFFIO_L5n (io), 19 IO (io), 20 IO, DIFFIO_L6p (io), 21 IO, DIFFIO_L6n (io), 26 IO, DIFFIO_B1p (io), 27 IO, DIFFIO_B1n (io), 28 IO, DIFFIO_B2p (io), 29 IO, DIFFIO_B2n (io), 30 IO (io), 33 IO, DIFFIO_B3p (io), 34 IO, DIFFIO_B3n (io), 35 IO, DIFFIO_B4p (io), 36 IO, DIFFIO_B4n (io), 38 IO, DIFFIO_B5p (io), 40 IO, DIFFIO_B5n (io), 41 IO, DIFFIO_B6p (io), 42 IO, DIFFIO_B6n (io), 43 IO, DEV_OE, DIFFIO_B7p (io), 44 IO, DEV_CLRn, DIFFIO_B7n (io), 47 IO, DIFFIO_B8p (io), 48 IO, DIFFIO_B8n (io), 49 IO (io), 50 IO (io), 51 IO (io)
part B pins: 1 IO, DIFFIO_T1p (io), 52 IO (io), 53 IO, DIFFIO_R6n (io), 54 IO, DIFFIO_R6p (io), 55 IO, DIFFIO_R5n (io), 56 IO, DIFFIO_R5p (io), 57 IO, DIFFIO_R4n (io), 58 IO, DIFFIO_R4p (io), 61 IO (io), 62 IO, CLK2 (io), 64 IO, CLK3 (io), 66 IO, DIFFIO_R3n (io), 67 IO, DIFFIO_R3p (io), 68 IO (io), 69 IO (io), 70 IO (io), 71 IO, DIFFIO_R2n (io), 72 IO, DIFFIO_R2p (io), 73 IO, DIFFIO_R1n (io), 74 IO, DIFFIO_R1p (io), 75 IO (io), 76 IO (io), 77 IO, DIFFIO_T8n (io), 78 IO, DIFFIO_T8p (io), 81 IO (io), 82 IO (io), 83 IO, DIFFIO_T7n (io), 84 IO, DIFFIO_T7p (io), 85 IO, DIFFIO_T6n (io), 86 IO, DIFFIO_T6p (io), 87 IO, DIFFIO_T5n (io), 89 IO, DIFFIO_T5p (io), 91 IO, DIFFIO_T4n (io), 92 IO, DIFFIO_T4p (io), 96 IO, DIFFIO_T3n (io), 97 IO, DIFFIO_T3p (io), 98 IO, DIFFIO_T2n (io), 99 IO, DIFFIO_T2p (io), 100 IO, DIFFIO_T1n (io)
part C pins: 22 TMS (in), 23 TDI (in), 24 TCK (in), 25 TDO (out)
part D pins: 8 GND (power), 9 VCCIO1 (power), 10 GND (power), 11 GND (power), 13 VCCINT (power), 31 VCCIO1 (power), 32 GND (power), 37 GND (power), 39 VCCINT (power), 45 VCCIO1 (power), 46 GND (power), 59 VCCIO2 (power), 60 GND (power), 63 VCCINT (power), 65 GND (power), 79 GND (power), 80 VCCIO2 (power), 88 VCCINT (power), 90 GND (power), 93 GND (power), 94 VCCIO2 (power), 95 GND (power)
part A text: BANK 1
part B text: BANK 2

## 5M570ZT100C5N
designator U?
MAX V 1.8V CPLD, 74 IOs, 570 Logic Elements, 100-Pin TQFP, Commercial Temperature, Speed Grade 5, Pb-Free; DatasheetVersion: ver1.2, May-2011; PackageVersion: ver1.0, Jul-2011; PackageReference: TQFP100_A-120; PackageDescription: 100-Pin Plastic Thin Quad Flat Pack (TQFP) - Wire Bond - A:1.20; Code_JEDEC: MS-029-AED; ComponentLink1Description: Manufacturer URL; ComponentLink1URL: http://www.altera.com/; ComponentLink2Description: Datasheet; ComponentLink2URL: http://www.altera.com/literature/hb/max-v/max5_handbook.pdf; ComponentLink3Description: MAX V Device Pin-Out files; ComponentLink3URL: http://www.altera.com/literature/lit-dp.jsp?category=MAX%205&showspreadsheet=y; ComponentLink4Description: Package Specification; ComponentLink4URL: http://www.altera.com/devicepackaging/04R00365-01.pdf
footprint TQFP100_A-120_N (Thin QFP, 100-Leads, Body 14x14mm, Pitch 0.5mm, IPC Medium Density)
footprint TQFP100_A-120_L (Thin QFP, 100-Leads, Body 14x14mm, Pitch 0.5mm, IPC High Density)
footprint TQFP100_A-120_M (Thin QFP, 100-Leads, Body 14x14mm, Pitch 0.5mm, IPC Low Density)
part A pins: 2 IO, DIFFIO_L1p (io), 3 IO, DIFFIO_L1n (io), 4 IO, DIFFIO_L2p (io), 5 IO, DIFFIO_L2n (io), 6 IO, DIFFIO_L3p (io), 7 IO, DIFFIO_L3n (io), 12 IO, CLK0 (io), 14 IO, CLK1 (io), 15 IO, DIFFIO_L4p (io), 16 IO, DIFFIO_L4n (io), 17 IO, DIFFIO_L5p (io), 18 IO, DIFFIO_L5n (io), 19 IO (io), 20 IO, DIFFIO_L6p (io), 21 IO, DIFFIO_L6n (io), 26 IO, DIFFIO_B1p (io), 27 IO, DIFFIO_B1n (io), 28 IO, DIFFIO_B2p (io), 29 IO, DIFFIO_B2n (io), 30 IO (io), 33 IO, DIFFIO_B3p (io), 34 IO, DIFFIO_B3n (io), 35 IO, DIFFIO_B4p (io), 36 IO, DIFFIO_B4n (io), 38 IO, DIFFIO_B5p (io), 40 IO, DIFFIO_B5n (io), 41 IO, DIFFIO_B6p (io), 42 IO, DIFFIO_B6n (io), 43 IO, DEV_OE, DIFFIO_B7p (io), 44 IO, DEV_CLRn, DIFFIO_B7n (io), 47 IO, DIFFIO_B8p (io), 48 IO, DIFFIO_B8n (io), 49 IO (io), 50 IO (io), 51 IO (io)
part B pins: 1 IO, DIFFIO_T1p (io), 52 IO (io), 53 IO, DIFFIO_R6n (io), 54 IO, DIFFIO_R6p (io), 55 IO, DIFFIO_R5n (io), 56 IO, DIFFIO_R5p (io), 57 IO, DIFFIO_R4n (io), 58 IO, DIFFIO_R4p (io), 61 IO (io), 62 IO, CLK2 (io), 64 IO, CLK3 (io), 66 IO, DIFFIO_R3n (io), 67 IO, DIFFIO_R3p (io), 68 IO (io), 69 IO (io), 70 IO (io), 71 IO, DIFFIO_R2n (io), 72 IO, DIFFIO_R2p (io), 73 IO, DIFFIO_R1n (io), 74 IO, DIFFIO_R1p (io), 75 IO (io), 76 IO (io), 77 IO, DIFFIO_T8n (io), 78 IO, DIFFIO_T8p (io), 81 IO (io), 82 IO (io), 83 IO, DIFFIO_T7n (io), 84 IO, DIFFIO_T7p (io), 85 IO, DIFFIO_T6n (io), 86 IO, DIFFIO_T6p (io), 87 IO, DIFFIO_T5n (io), 89 IO, DIFFIO_T5p (io), 91 IO, DIFFIO_T4n (io), 92 IO, DIFFIO_T4p (io), 96 IO, DIFFIO_T3n (io), 97 IO, DIFFIO_T3p (io), 98 IO, DIFFIO_T2n (io), 99 IO, DIFFIO_T2p (io), 100 IO, DIFFIO_T1n (io)
part C pins: 22 TMS (in), 23 TDI (in), 24 TCK (in), 25 TDO (out)
part D pins: 8 GND (power), 9 VCCIO1 (power), 10 GND (power), 11 GND (power), 13 VCCINT (power), 31 VCCIO1 (power), 32 GND (power), 37 GND (power), 39 VCCINT (power), 45 VCCIO1 (power), 46 GND (power), 59 VCCIO2 (power), 60 GND (power), 63 VCCINT (power), 65 GND (power), 79 GND (power), 80 VCCIO2 (power), 88 VCCINT (power), 90 GND (power), 93 GND (power), 94 VCCIO2 (power), 95 GND (power)
part A text: BANK 1
part B text: BANK 2

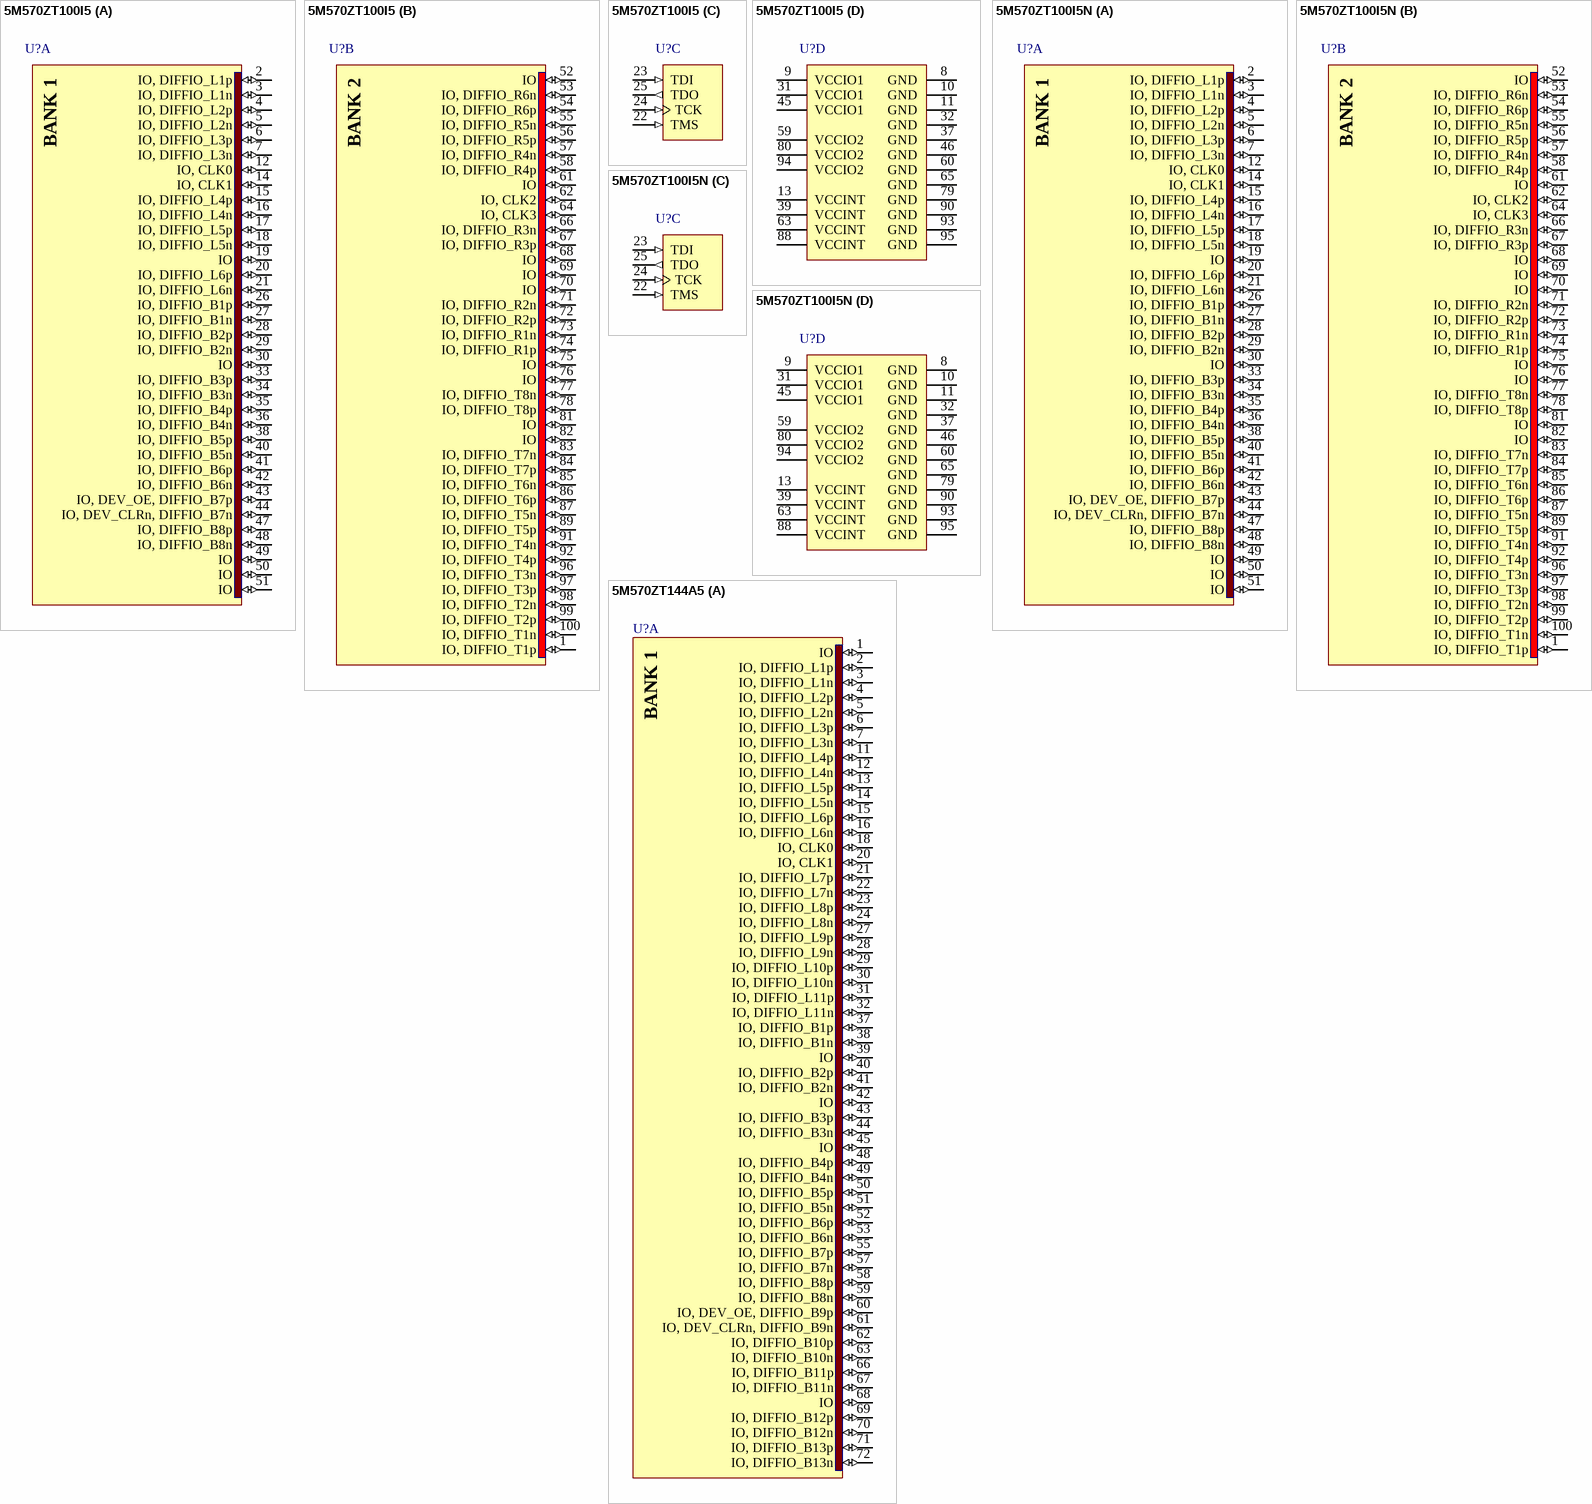
[diagram p38: symbols 5M570ZT100I5 to 5M570ZT144A5]

## 5M570ZT100I5
designator U?
MAX V 1.8V CPLD, 74 IOs, 570 Logic Elements, 100-Pin TQFP, Industrial Temperature, Speed Grade 5; DatasheetVersion: ver1.2, May-2011; PackageVersion: ver1.0, Jul-2011; PackageReference: TQFP100_A-120; PackageDescription: 100-Pin Plastic Thin Quad Flat Pack (TQFP) - Wire Bond - A:1.20; Code_JEDEC: MS-029-AED; ComponentLink1Description: Manufacturer URL; ComponentLink1URL: http://www.altera.com/; ComponentLink2Description: Datasheet; ComponentLink2URL: http://www.altera.com/literature/hb/max-v/max5_handbook.pdf; ComponentLink3Description: MAX V Device Pin-Out files; ComponentLink3URL: http://www.altera.com/literature/lit-dp.jsp?category=MAX%205&showspreadsheet=y; ComponentLink4Description: Package Specification; ComponentLink4URL: http://www.altera.com/devicepackaging/04R00365-01.pdf
footprint TQFP100_A-120_N (Thin QFP, 100-Leads, Body 14x14mm, Pitch 0.5mm, IPC Medium Density)
footprint TQFP100_A-120_L (Thin QFP, 100-Leads, Body 14x14mm, Pitch 0.5mm, IPC High Density)
footprint TQFP100_A-120_M (Thin QFP, 100-Leads, Body 14x14mm, Pitch 0.5mm, IPC Low Density)
part A pins: 2 IO, DIFFIO_L1p (io), 3 IO, DIFFIO_L1n (io), 4 IO, DIFFIO_L2p (io), 5 IO, DIFFIO_L2n (io), 6 IO, DIFFIO_L3p (io), 7 IO, DIFFIO_L3n (io), 12 IO, CLK0 (io), 14 IO, CLK1 (io), 15 IO, DIFFIO_L4p (io), 16 IO, DIFFIO_L4n (io), 17 IO, DIFFIO_L5p (io), 18 IO, DIFFIO_L5n (io), 19 IO (io), 20 IO, DIFFIO_L6p (io), 21 IO, DIFFIO_L6n (io), 26 IO, DIFFIO_B1p (io), 27 IO, DIFFIO_B1n (io), 28 IO, DIFFIO_B2p (io), 29 IO, DIFFIO_B2n (io), 30 IO (io), 33 IO, DIFFIO_B3p (io), 34 IO, DIFFIO_B3n (io), 35 IO, DIFFIO_B4p (io), 36 IO, DIFFIO_B4n (io), 38 IO, DIFFIO_B5p (io), 40 IO, DIFFIO_B5n (io), 41 IO, DIFFIO_B6p (io), 42 IO, DIFFIO_B6n (io), 43 IO, DEV_OE, DIFFIO_B7p (io), 44 IO, DEV_CLRn, DIFFIO_B7n (io), 47 IO, DIFFIO_B8p (io), 48 IO, DIFFIO_B8n (io), 49 IO (io), 50 IO (io), 51 IO (io)
part B pins: 1 IO, DIFFIO_T1p (io), 52 IO (io), 53 IO, DIFFIO_R6n (io), 54 IO, DIFFIO_R6p (io), 55 IO, DIFFIO_R5n (io), 56 IO, DIFFIO_R5p (io), 57 IO, DIFFIO_R4n (io), 58 IO, DIFFIO_R4p (io), 61 IO (io), 62 IO, CLK2 (io), 64 IO, CLK3 (io), 66 IO, DIFFIO_R3n (io), 67 IO, DIFFIO_R3p (io), 68 IO (io), 69 IO (io), 70 IO (io), 71 IO, DIFFIO_R2n (io), 72 IO, DIFFIO_R2p (io), 73 IO, DIFFIO_R1n (io), 74 IO, DIFFIO_R1p (io), 75 IO (io), 76 IO (io), 77 IO, DIFFIO_T8n (io), 78 IO, DIFFIO_T8p (io), 81 IO (io), 82 IO (io), 83 IO, DIFFIO_T7n (io), 84 IO, DIFFIO_T7p (io), 85 IO, DIFFIO_T6n (io), 86 IO, DIFFIO_T6p (io), 87 IO, DIFFIO_T5n (io), 89 IO, DIFFIO_T5p (io), 91 IO, DIFFIO_T4n (io), 92 IO, DIFFIO_T4p (io), 96 IO, DIFFIO_T3n (io), 97 IO, DIFFIO_T3p (io), 98 IO, DIFFIO_T2n (io), 99 IO, DIFFIO_T2p (io), 100 IO, DIFFIO_T1n (io)
part C pins: 22 TMS (in), 23 TDI (in), 24 TCK (in), 25 TDO (out)
part D pins: 8 GND (power), 9 VCCIO1 (power), 10 GND (power), 11 GND (power), 13 VCCINT (power), 31 VCCIO1 (power), 32 GND (power), 37 GND (power), 39 VCCINT (power), 45 VCCIO1 (power), 46 GND (power), 59 VCCIO2 (power), 60 GND (power), 63 VCCINT (power), 65 GND (power), 79 GND (power), 80 VCCIO2 (power), 88 VCCINT (power), 90 GND (power), 93 GND (power), 94 VCCIO2 (power), 95 GND (power)
part A text: BANK 1
part B text: BANK 2

## 5M570ZT100I5N
designator U?
MAX V 1.8V CPLD, 74 IOs, 570 Logic Elements, 100-Pin TQFP, Industrial Temperature, Speed Grade 5, Pb-Free; DatasheetVersion: ver1.2, May-2011; PackageVersion: ver1.0, Jul-2011; PackageReference: TQFP100_A-120; PackageDescription: 100-Pin Plastic Thin Quad Flat Pack (TQFP) - Wire Bond - A:1.20; Code_JEDEC: MS-029-AED; ComponentLink1Description: Manufacturer URL; ComponentLink1URL: http://www.altera.com/; ComponentLink2Description: Datasheet; ComponentLink2URL: http://www.altera.com/literature/hb/max-v/max5_handbook.pdf; ComponentLink3Description: MAX V Device Pin-Out files; ComponentLink3URL: http://www.altera.com/literature/lit-dp.jsp?category=MAX%205&showspreadsheet=y; ComponentLink4Description: Package Specification; ComponentLink4URL: http://www.altera.com/devicepackaging/04R00365-01.pdf
footprint TQFP100_A-120_N (Thin QFP, 100-Leads, Body 14x14mm, Pitch 0.5mm, IPC Medium Density)
footprint TQFP100_A-120_L (Thin QFP, 100-Leads, Body 14x14mm, Pitch 0.5mm, IPC High Density)
footprint TQFP100_A-120_M (Thin QFP, 100-Leads, Body 14x14mm, Pitch 0.5mm, IPC Low Density)
part A pins: 2 IO, DIFFIO_L1p (io), 3 IO, DIFFIO_L1n (io), 4 IO, DIFFIO_L2p (io), 5 IO, DIFFIO_L2n (io), 6 IO, DIFFIO_L3p (io), 7 IO, DIFFIO_L3n (io), 12 IO, CLK0 (io), 14 IO, CLK1 (io), 15 IO, DIFFIO_L4p (io), 16 IO, DIFFIO_L4n (io), 17 IO, DIFFIO_L5p (io), 18 IO, DIFFIO_L5n (io), 19 IO (io), 20 IO, DIFFIO_L6p (io), 21 IO, DIFFIO_L6n (io), 26 IO, DIFFIO_B1p (io), 27 IO, DIFFIO_B1n (io), 28 IO, DIFFIO_B2p (io), 29 IO, DIFFIO_B2n (io), 30 IO (io), 33 IO, DIFFIO_B3p (io), 34 IO, DIFFIO_B3n (io), 35 IO, DIFFIO_B4p (io), 36 IO, DIFFIO_B4n (io), 38 IO, DIFFIO_B5p (io), 40 IO, DIFFIO_B5n (io), 41 IO, DIFFIO_B6p (io), 42 IO, DIFFIO_B6n (io), 43 IO, DEV_OE, DIFFIO_B7p (io), 44 IO, DEV_CLRn, DIFFIO_B7n (io), 47 IO, DIFFIO_B8p (io), 48 IO, DIFFIO_B8n (io), 49 IO (io), 50 IO (io), 51 IO (io)
part B pins: 1 IO, DIFFIO_T1p (io), 52 IO (io), 53 IO, DIFFIO_R6n (io), 54 IO, DIFFIO_R6p (io), 55 IO, DIFFIO_R5n (io), 56 IO, DIFFIO_R5p (io), 57 IO, DIFFIO_R4n (io), 58 IO, DIFFIO_R4p (io), 61 IO (io), 62 IO, CLK2 (io), 64 IO, CLK3 (io), 66 IO, DIFFIO_R3n (io), 67 IO, DIFFIO_R3p (io), 68 IO (io), 69 IO (io), 70 IO (io), 71 IO, DIFFIO_R2n (io), 72 IO, DIFFIO_R2p (io), 73 IO, DIFFIO_R1n (io), 74 IO, DIFFIO_R1p (io), 75 IO (io), 76 IO (io), 77 IO, DIFFIO_T8n (io), 78 IO, DIFFIO_T8p (io), 81 IO (io), 82 IO (io), 83 IO, DIFFIO_T7n (io), 84 IO, DIFFIO_T7p (io), 85 IO, DIFFIO_T6n (io), 86 IO, DIFFIO_T6p (io), 87 IO, DIFFIO_T5n (io), 89 IO, DIFFIO_T5p (io), 91 IO, DIFFIO_T4n (io), 92 IO, DIFFIO_T4p (io), 96 IO, DIFFIO_T3n (io), 97 IO, DIFFIO_T3p (io), 98 IO, DIFFIO_T2n (io), 99 IO, DIFFIO_T2p (io), 100 IO, DIFFIO_T1n (io)
part C pins: 22 TMS (in), 23 TDI (in), 24 TCK (in), 25 TDO (out)
part D pins: 8 GND (power), 9 VCCIO1 (power), 10 GND (power), 11 GND (power), 13 VCCINT (power), 31 VCCIO1 (power), 32 GND (power), 37 GND (power), 39 VCCINT (power), 45 VCCIO1 (power), 46 GND (power), 59 VCCIO2 (power), 60 GND (power), 63 VCCINT (power), 65 GND (power), 79 GND (power), 80 VCCIO2 (power), 88 VCCINT (power), 90 GND (power), 93 GND (power), 94 VCCIO2 (power), 95 GND (power)
part A text: BANK 1
part B text: BANK 2

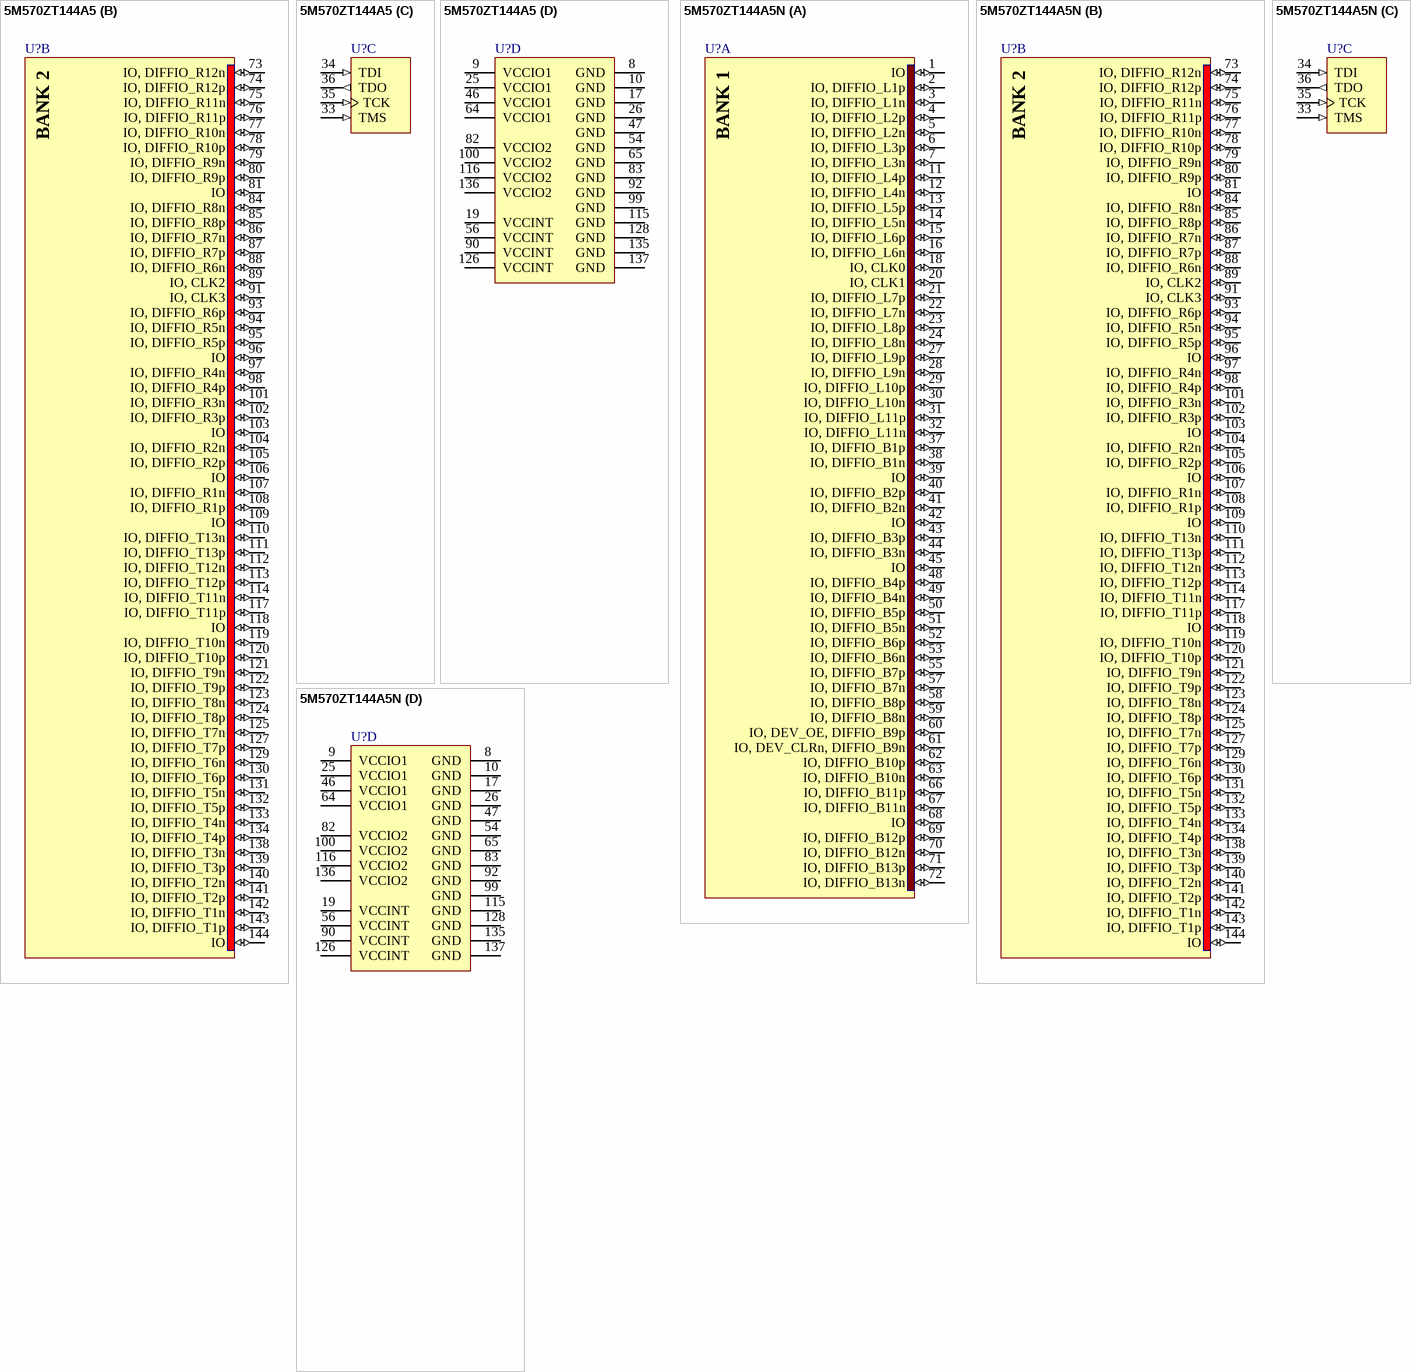
[diagram p39: symbols 5M570ZT144A5 to 5M570ZT144A5N]

## 5M570ZT144A5
designator U?
MAX V 1.8V CPLD, 114 IOs, 570 Logic Elements, 144-Pin TQFP, Automotive Temperature, Speed Grade 5; DatasheetVersion: ver1.2, May-2011; PackageVersion: ver1.0, Jul-2011; PackageReference: TQFP144_A-160; PackageDescription: 144-Pin Plastic Thin Quad Flat Pack (TQFP) - Wire Bond - A:1.60; Code_JEDEC: MS-029-BFB; ComponentLink1Description: Manufacturer URL; ComponentLink1URL: http://www.altera.com/; ComponentLink2Description: Datasheet; ComponentLink2URL: http://www.altera.com/literature/hb/max-v/max5_handbook.pdf; ComponentLink3Description: MAX V Device Pin-Out files; ComponentLink3URL: http://www.altera.com/literature/lit-dp.jsp?category=MAX%205&showspreadsheet=y; ComponentLink4Description: Package Specification; ComponentLink4URL: http://www.altera.com/devicepackaging/04R00366-01.pdf
footprint TQFP144_A-160_N (Thin QFP, 144-Leads, Body 20x20mm, Pitch 0.5mm, IPC Medium Density)
footprint TQFP144_A-160_L (Thin QFP, 144-Leads, Body 20x20mm, Pitch 0.5mm, IPC High Density)
footprint TQFP144_A-160_M (Thin QFP, 144-Leads, Body 20x20mm, Pitch 0.5mm, IPC Low Density)
part A pins: 1 IO (io), 2 IO, DIFFIO_L1p (io), 3 IO, DIFFIO_L1n (io), 4 IO, DIFFIO_L2p (io), 5 IO, DIFFIO_L2n (io), 6 IO, DIFFIO_L3p (io), 7 IO, DIFFIO_L3n (io), 11 IO, DIFFIO_L4p (io), 12 IO, DIFFIO_L4n (io), 13 IO, DIFFIO_L5p (io), 14 IO, DIFFIO_L5n (io), 15 IO, DIFFIO_L6p (io), 16 IO, DIFFIO_L6n (io), 18 IO, CLK0 (io), 20 IO, CLK1 (io), 21 IO, DIFFIO_L7p (io), 22 IO, DIFFIO_L7n (io), 23 IO, DIFFIO_L8p (io), 24 IO, DIFFIO_L8n (io), 27 IO, DIFFIO_L9p (io), 28 IO, DIFFIO_L9n (io), 29 IO, DIFFIO_L10p (io), 30 IO, DIFFIO_L10n (io), 31 IO, DIFFIO_L11p (io), 32 IO, DIFFIO_L11n (io), 37 IO, DIFFIO_B1p (io), 38 IO, DIFFIO_B1n (io), 39 IO (io), 40 IO, DIFFIO_B2p (io), 41 IO, DIFFIO_B2n (io), 42 IO (io), 43 IO, DIFFIO_B3p (io), 44 IO, DIFFIO_B3n (io), 45 IO (io), 48 IO, DIFFIO_B4p (io), 49 IO, DIFFIO_B4n (io), 50 IO, DIFFIO_B5p (io), 51 IO, DIFFIO_B5n (io), 52 IO, DIFFIO_B6p (io), 53 IO, DIFFIO_B6n (io), 55 IO, DIFFIO_B7p (io), 57 IO, DIFFIO_B7n (io), 58 IO, DIFFIO_B8p (io), 59 IO, DIFFIO_B8n (io), 60 IO, DEV_OE, DIFFIO_B9p (io), 61 IO, DEV_CLRn, DIFFIO_B9n (io), 62 IO, DIFFIO_B10p (io), 63 IO, DIFFIO_B10n (io), 66 IO, DIFFIO_B11p (io), 67 IO, DIFFIO_B11n (io), 68 IO (io), 69 IO, DIFFIO_B12p (io), 70 IO, DIFFIO_B12n (io), 71 IO, DIFFIO_B13p (io), 72 IO, DIFFIO_B13n (io)
part B pins: 73 IO, DIFFIO_R12n (io), 74 IO, DIFFIO_R12p (io), 75 IO, DIFFIO_R11n (io), 76 IO, DIFFIO_R11p (io), 77 IO, DIFFIO_R10n (io), 78 IO, DIFFIO_R10p (io), 79 IO, DIFFIO_R9n (io), 80 IO, DIFFIO_R9p (io), 81 IO (io), 84 IO, DIFFIO_R8n (io), 85 IO, DIFFIO_R8p (io), 86 IO, DIFFIO_R7n (io), 87 IO, DIFFIO_R7p (io), 88 IO, DIFFIO_R6n (io), 89 IO, CLK2 (io), 91 IO, CLK3 (io), 93 IO, DIFFIO_R6p (io), 94 IO, DIFFIO_R5n (io), 95 IO, DIFFIO_R5p (io), 96 IO (io), 97 IO, DIFFIO_R4n (io), 98 IO, DIFFIO_R4p (io), 101 IO, DIFFIO_R3n (io), 102 IO, DIFFIO_R3p (io), 103 IO (io), 104 IO, DIFFIO_R2n (io), 105 IO, DIFFIO_R2p (io), 106 IO (io), 107 IO, DIFFIO_R1n (io), 108 IO, DIFFIO_R1p (io), 109 IO (io), 110 IO, DIFFIO_T13n (io), 111 IO, DIFFIO_T13p (io), 112 IO, DIFFIO_T12n (io), 113 IO, DIFFIO_T12p (io), 114 IO, DIFFIO_T11n (io), 117 IO, DIFFIO_T11p (io), 118 IO (io), 119 IO, DIFFIO_T10n (io), 120 IO, DIFFIO_T10p (io), 121 IO, DIFFIO_T9n (io), 122 IO, DIFFIO_T9p (io), 123 IO, DIFFIO_T8n (io), 124 IO, DIFFIO_T8p (io), 125 IO, DIFFIO_T7n (io), 127 IO, DIFFIO_T7p (io), 129 IO, DIFFIO_T6n (io), 130 IO, DIFFIO_T6p (io), 131 IO, DIFFIO_T5n (io), 132 IO, DIFFIO_T5p (io), 133 IO, DIFFIO_T4n (io), 134 IO, DIFFIO_T4p (io), 138 IO, DIFFIO_T3n (io), 139 IO, DIFFIO_T3p (io), 140 IO, DIFFIO_T2n (io), 141 IO, DIFFIO_T2p (io), 142 IO, DIFFIO_T1n (io), 143 IO, DIFFIO_T1p (io), 144 IO (io)
part C pins: 33 TMS (in), 34 TDI (in), 35 TCK (in), 36 TDO (out)
part D pins: 8 GND (power), 9 VCCIO1 (power), 10 GND (power), 17 GND (power), 19 VCCINT (power), 25 VCCIO1 (power), 26 GND (power), 46 VCCIO1 (power), 47 GND (power), 54 GND (power), 56 VCCINT (power), 64 VCCIO1 (power), 65 GND (power), 82 VCCIO2 (power), 83 GND (power), 90 VCCINT (power), 92 GND (power), 99 GND (power), 100 VCCIO2 (power), 115 GND (power), 116 VCCIO2 (power), 126 VCCINT (power), 128 GND (power), 135 GND (power), 136 VCCIO2 (power), 137 GND (power)
part A text: BANK 1
part B text: BANK 2

## 5M570ZT144A5N
designator U?
MAX V 1.8V CPLD, 114 IOs, 570 Logic Elements, 144-Pin TQFP, Automotive Temperature, Speed Grade 5, Pb-Free; DatasheetVersion: ver1.2, May-2011; PackageVersion: ver1.0, Jul-2011; PackageReference: TQFP144_A-160; PackageDescription: 144-Pin Plastic Thin Quad Flat Pack (TQFP) - Wire Bond - A:1.60; Code_JEDEC: MS-029-BFB; ComponentLink1Description: Manufacturer URL; ComponentLink1URL: http://www.altera.com/; ComponentLink2Description: Datasheet; ComponentLink2URL: http://www.altera.com/literature/hb/max-v/max5_handbook.pdf; ComponentLink3Description: MAX V Device Pin-Out files; ComponentLink3URL: http://www.altera.com/literature/lit-dp.jsp?category=MAX%205&showspreadsheet=y; ComponentLink4Description: Package Specification; ComponentLink4URL: http://www.altera.com/devicepackaging/04R00366-01.pdf
footprint TQFP144_A-160_N (Thin QFP, 144-Leads, Body 20x20mm, Pitch 0.5mm, IPC Medium Density)
footprint TQFP144_A-160_L (Thin QFP, 144-Leads, Body 20x20mm, Pitch 0.5mm, IPC High Density)
footprint TQFP144_A-160_M (Thin QFP, 144-Leads, Body 20x20mm, Pitch 0.5mm, IPC Low Density)
part A pins: 1 IO (io), 2 IO, DIFFIO_L1p (io), 3 IO, DIFFIO_L1n (io), 4 IO, DIFFIO_L2p (io), 5 IO, DIFFIO_L2n (io), 6 IO, DIFFIO_L3p (io), 7 IO, DIFFIO_L3n (io), 11 IO, DIFFIO_L4p (io), 12 IO, DIFFIO_L4n (io), 13 IO, DIFFIO_L5p (io), 14 IO, DIFFIO_L5n (io), 15 IO, DIFFIO_L6p (io), 16 IO, DIFFIO_L6n (io), 18 IO, CLK0 (io), 20 IO, CLK1 (io), 21 IO, DIFFIO_L7p (io), 22 IO, DIFFIO_L7n (io), 23 IO, DIFFIO_L8p (io), 24 IO, DIFFIO_L8n (io), 27 IO, DIFFIO_L9p (io), 28 IO, DIFFIO_L9n (io), 29 IO, DIFFIO_L10p (io), 30 IO, DIFFIO_L10n (io), 31 IO, DIFFIO_L11p (io), 32 IO, DIFFIO_L11n (io), 37 IO, DIFFIO_B1p (io), 38 IO, DIFFIO_B1n (io), 39 IO (io), 40 IO, DIFFIO_B2p (io), 41 IO, DIFFIO_B2n (io), 42 IO (io), 43 IO, DIFFIO_B3p (io), 44 IO, DIFFIO_B3n (io), 45 IO (io), 48 IO, DIFFIO_B4p (io), 49 IO, DIFFIO_B4n (io), 50 IO, DIFFIO_B5p (io), 51 IO, DIFFIO_B5n (io), 52 IO, DIFFIO_B6p (io), 53 IO, DIFFIO_B6n (io), 55 IO, DIFFIO_B7p (io), 57 IO, DIFFIO_B7n (io), 58 IO, DIFFIO_B8p (io), 59 IO, DIFFIO_B8n (io), 60 IO, DEV_OE, DIFFIO_B9p (io), 61 IO, DEV_CLRn, DIFFIO_B9n (io), 62 IO, DIFFIO_B10p (io), 63 IO, DIFFIO_B10n (io), 66 IO, DIFFIO_B11p (io), 67 IO, DIFFIO_B11n (io), 68 IO (io), 69 IO, DIFFIO_B12p (io), 70 IO, DIFFIO_B12n (io), 71 IO, DIFFIO_B13p (io), 72 IO, DIFFIO_B13n (io)
part B pins: 73 IO, DIFFIO_R12n (io), 74 IO, DIFFIO_R12p (io), 75 IO, DIFFIO_R11n (io), 76 IO, DIFFIO_R11p (io), 77 IO, DIFFIO_R10n (io), 78 IO, DIFFIO_R10p (io), 79 IO, DIFFIO_R9n (io), 80 IO, DIFFIO_R9p (io), 81 IO (io), 84 IO, DIFFIO_R8n (io), 85 IO, DIFFIO_R8p (io), 86 IO, DIFFIO_R7n (io), 87 IO, DIFFIO_R7p (io), 88 IO, DIFFIO_R6n (io), 89 IO, CLK2 (io), 91 IO, CLK3 (io), 93 IO, DIFFIO_R6p (io), 94 IO, DIFFIO_R5n (io), 95 IO, DIFFIO_R5p (io), 96 IO (io), 97 IO, DIFFIO_R4n (io), 98 IO, DIFFIO_R4p (io), 101 IO, DIFFIO_R3n (io), 102 IO, DIFFIO_R3p (io), 103 IO (io), 104 IO, DIFFIO_R2n (io), 105 IO, DIFFIO_R2p (io), 106 IO (io), 107 IO, DIFFIO_R1n (io), 108 IO, DIFFIO_R1p (io), 109 IO (io), 110 IO, DIFFIO_T13n (io), 111 IO, DIFFIO_T13p (io), 112 IO, DIFFIO_T12n (io), 113 IO, DIFFIO_T12p (io), 114 IO, DIFFIO_T11n (io), 117 IO, DIFFIO_T11p (io), 118 IO (io), 119 IO, DIFFIO_T10n (io), 120 IO, DIFFIO_T10p (io), 121 IO, DIFFIO_T9n (io), 122 IO, DIFFIO_T9p (io), 123 IO, DIFFIO_T8n (io), 124 IO, DIFFIO_T8p (io), 125 IO, DIFFIO_T7n (io), 127 IO, DIFFIO_T7p (io), 129 IO, DIFFIO_T6n (io), 130 IO, DIFFIO_T6p (io), 131 IO, DIFFIO_T5n (io), 132 IO, DIFFIO_T5p (io), 133 IO, DIFFIO_T4n (io), 134 IO, DIFFIO_T4p (io), 138 IO, DIFFIO_T3n (io), 139 IO, DIFFIO_T3p (io), 140 IO, DIFFIO_T2n (io), 141 IO, DIFFIO_T2p (io), 142 IO, DIFFIO_T1n (io), 143 IO, DIFFIO_T1p (io), 144 IO (io)
part C pins: 33 TMS (in), 34 TDI (in), 35 TCK (in), 36 TDO (out)
part D pins: 8 GND (power), 9 VCCIO1 (power), 10 GND (power), 17 GND (power), 19 VCCINT (power), 25 VCCIO1 (power), 26 GND (power), 46 VCCIO1 (power), 47 GND (power), 54 GND (power), 56 VCCINT (power), 64 VCCIO1 (power), 65 GND (power), 82 VCCIO2 (power), 83 GND (power), 90 VCCINT (power), 92 GND (power), 99 GND (power), 100 VCCIO2 (power), 115 GND (power), 116 VCCIO2 (power), 126 VCCINT (power), 128 GND (power), 135 GND (power), 136 VCCIO2 (power), 137 GND (power)
part A text: BANK 1
part B text: BANK 2

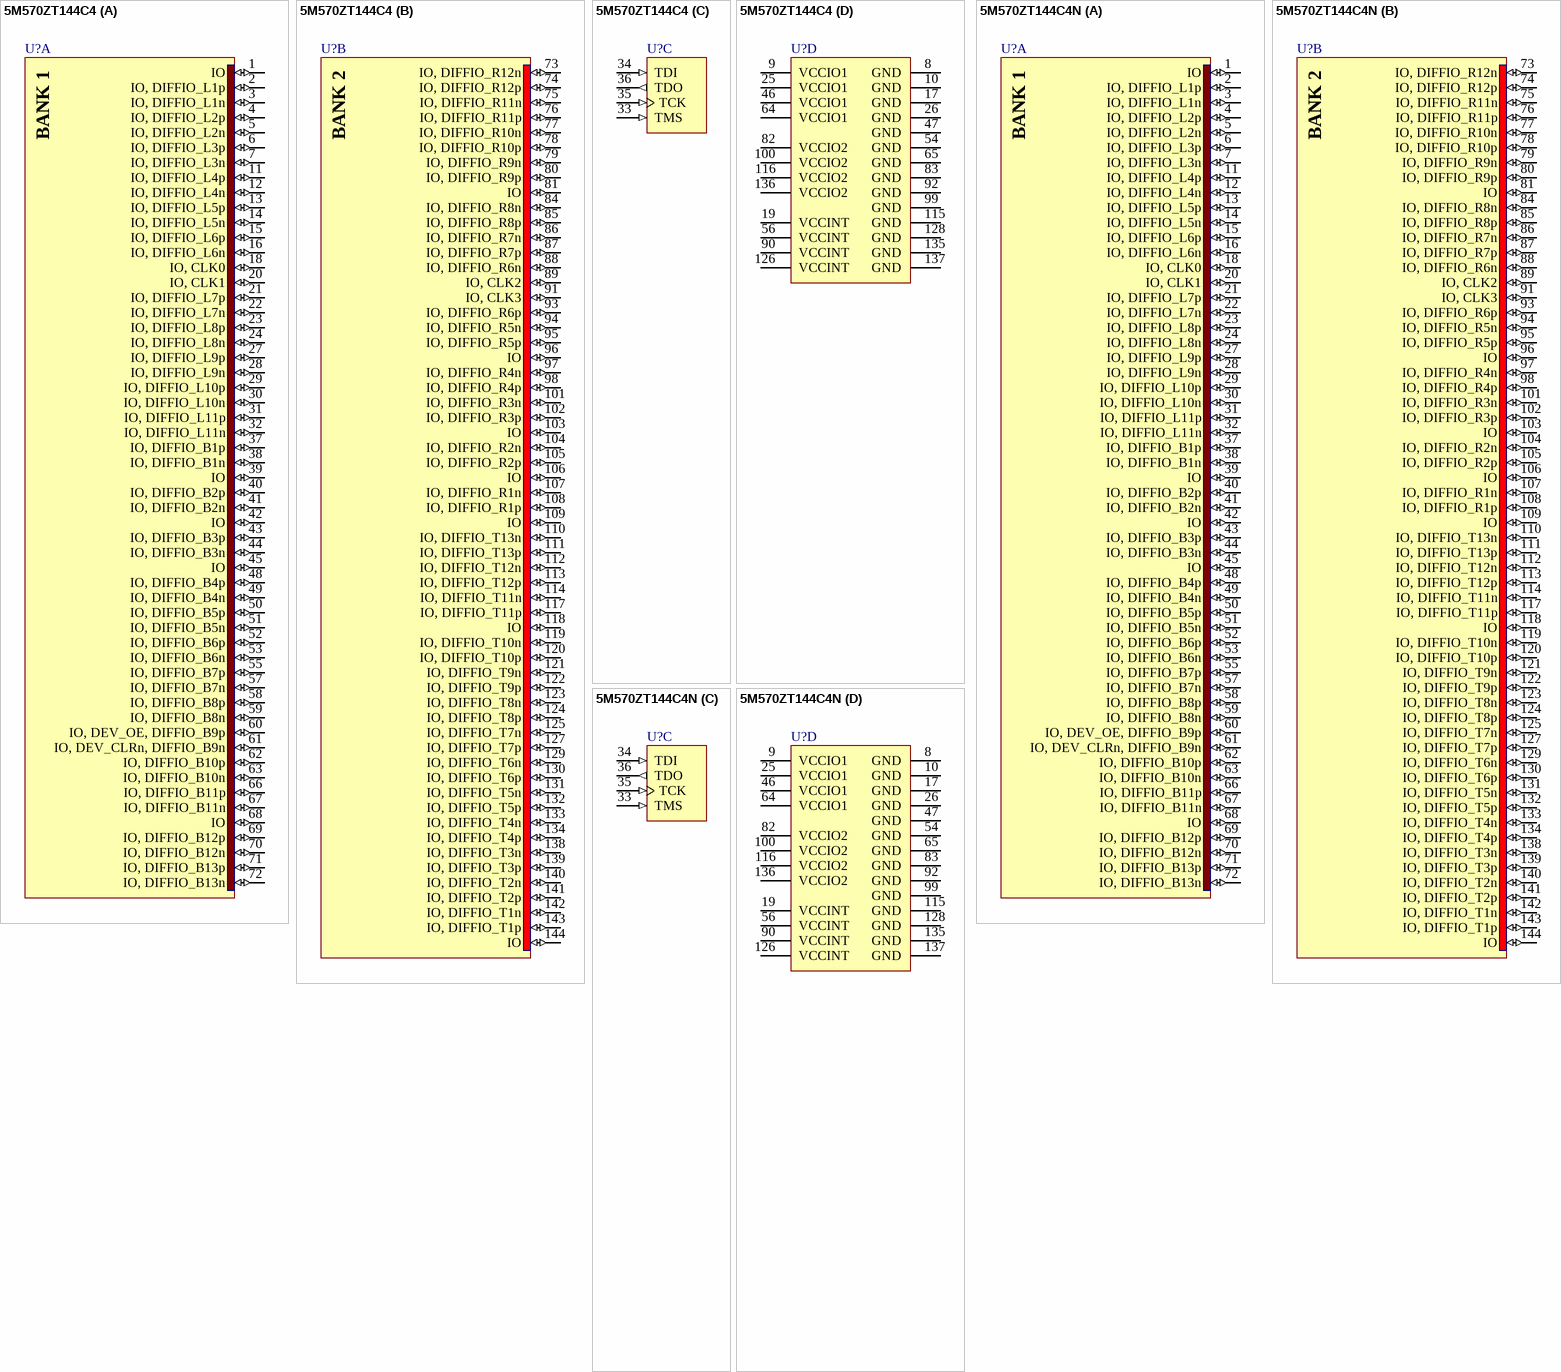
[diagram p40: symbols 5M570ZT144C4 to 5M570ZT144C4N]

## 5M570ZT144C4
designator U?
MAX V 1.8V CPLD, 114 IOs, 570 Logic Elements, 144-Pin TQFP, Commercial Temperature, Speed Grade 4; DatasheetVersion: ver1.2, May-2011; PackageVersion: ver1.0, Jul-2011; PackageReference: TQFP144_A-160; PackageDescription: 144-Pin Plastic Thin Quad Flat Pack (TQFP) - Wire Bond - A:1.60; Code_JEDEC: MS-029-BFB; ComponentLink1Description: Manufacturer URL; ComponentLink1URL: http://www.altera.com/; ComponentLink2Description: Datasheet; ComponentLink2URL: http://www.altera.com/literature/hb/max-v/max5_handbook.pdf; ComponentLink3Description: MAX V Device Pin-Out files; ComponentLink3URL: http://www.altera.com/literature/lit-dp.jsp?category=MAX%205&showspreadsheet=y; ComponentLink4Description: Package Specification; ComponentLink4URL: http://www.altera.com/devicepackaging/04R00366-01.pdf
footprint TQFP144_A-160_N (Thin QFP, 144-Leads, Body 20x20mm, Pitch 0.5mm, IPC Medium Density)
footprint TQFP144_A-160_L (Thin QFP, 144-Leads, Body 20x20mm, Pitch 0.5mm, IPC High Density)
footprint TQFP144_A-160_M (Thin QFP, 144-Leads, Body 20x20mm, Pitch 0.5mm, IPC Low Density)
part A pins: 1 IO (io), 2 IO, DIFFIO_L1p (io), 3 IO, DIFFIO_L1n (io), 4 IO, DIFFIO_L2p (io), 5 IO, DIFFIO_L2n (io), 6 IO, DIFFIO_L3p (io), 7 IO, DIFFIO_L3n (io), 11 IO, DIFFIO_L4p (io), 12 IO, DIFFIO_L4n (io), 13 IO, DIFFIO_L5p (io), 14 IO, DIFFIO_L5n (io), 15 IO, DIFFIO_L6p (io), 16 IO, DIFFIO_L6n (io), 18 IO, CLK0 (io), 20 IO, CLK1 (io), 21 IO, DIFFIO_L7p (io), 22 IO, DIFFIO_L7n (io), 23 IO, DIFFIO_L8p (io), 24 IO, DIFFIO_L8n (io), 27 IO, DIFFIO_L9p (io), 28 IO, DIFFIO_L9n (io), 29 IO, DIFFIO_L10p (io), 30 IO, DIFFIO_L10n (io), 31 IO, DIFFIO_L11p (io), 32 IO, DIFFIO_L11n (io), 37 IO, DIFFIO_B1p (io), 38 IO, DIFFIO_B1n (io), 39 IO (io), 40 IO, DIFFIO_B2p (io), 41 IO, DIFFIO_B2n (io), 42 IO (io), 43 IO, DIFFIO_B3p (io), 44 IO, DIFFIO_B3n (io), 45 IO (io), 48 IO, DIFFIO_B4p (io), 49 IO, DIFFIO_B4n (io), 50 IO, DIFFIO_B5p (io), 51 IO, DIFFIO_B5n (io), 52 IO, DIFFIO_B6p (io), 53 IO, DIFFIO_B6n (io), 55 IO, DIFFIO_B7p (io), 57 IO, DIFFIO_B7n (io), 58 IO, DIFFIO_B8p (io), 59 IO, DIFFIO_B8n (io), 60 IO, DEV_OE, DIFFIO_B9p (io), 61 IO, DEV_CLRn, DIFFIO_B9n (io), 62 IO, DIFFIO_B10p (io), 63 IO, DIFFIO_B10n (io), 66 IO, DIFFIO_B11p (io), 67 IO, DIFFIO_B11n (io), 68 IO (io), 69 IO, DIFFIO_B12p (io), 70 IO, DIFFIO_B12n (io), 71 IO, DIFFIO_B13p (io), 72 IO, DIFFIO_B13n (io)
part B pins: 73 IO, DIFFIO_R12n (io), 74 IO, DIFFIO_R12p (io), 75 IO, DIFFIO_R11n (io), 76 IO, DIFFIO_R11p (io), 77 IO, DIFFIO_R10n (io), 78 IO, DIFFIO_R10p (io), 79 IO, DIFFIO_R9n (io), 80 IO, DIFFIO_R9p (io), 81 IO (io), 84 IO, DIFFIO_R8n (io), 85 IO, DIFFIO_R8p (io), 86 IO, DIFFIO_R7n (io), 87 IO, DIFFIO_R7p (io), 88 IO, DIFFIO_R6n (io), 89 IO, CLK2 (io), 91 IO, CLK3 (io), 93 IO, DIFFIO_R6p (io), 94 IO, DIFFIO_R5n (io), 95 IO, DIFFIO_R5p (io), 96 IO (io), 97 IO, DIFFIO_R4n (io), 98 IO, DIFFIO_R4p (io), 101 IO, DIFFIO_R3n (io), 102 IO, DIFFIO_R3p (io), 103 IO (io), 104 IO, DIFFIO_R2n (io), 105 IO, DIFFIO_R2p (io), 106 IO (io), 107 IO, DIFFIO_R1n (io), 108 IO, DIFFIO_R1p (io), 109 IO (io), 110 IO, DIFFIO_T13n (io), 111 IO, DIFFIO_T13p (io), 112 IO, DIFFIO_T12n (io), 113 IO, DIFFIO_T12p (io), 114 IO, DIFFIO_T11n (io), 117 IO, DIFFIO_T11p (io), 118 IO (io), 119 IO, DIFFIO_T10n (io), 120 IO, DIFFIO_T10p (io), 121 IO, DIFFIO_T9n (io), 122 IO, DIFFIO_T9p (io), 123 IO, DIFFIO_T8n (io), 124 IO, DIFFIO_T8p (io), 125 IO, DIFFIO_T7n (io), 127 IO, DIFFIO_T7p (io), 129 IO, DIFFIO_T6n (io), 130 IO, DIFFIO_T6p (io), 131 IO, DIFFIO_T5n (io), 132 IO, DIFFIO_T5p (io), 133 IO, DIFFIO_T4n (io), 134 IO, DIFFIO_T4p (io), 138 IO, DIFFIO_T3n (io), 139 IO, DIFFIO_T3p (io), 140 IO, DIFFIO_T2n (io), 141 IO, DIFFIO_T2p (io), 142 IO, DIFFIO_T1n (io), 143 IO, DIFFIO_T1p (io), 144 IO (io)
part C pins: 33 TMS (in), 34 TDI (in), 35 TCK (in), 36 TDO (out)
part D pins: 8 GND (power), 9 VCCIO1 (power), 10 GND (power), 17 GND (power), 19 VCCINT (power), 25 VCCIO1 (power), 26 GND (power), 46 VCCIO1 (power), 47 GND (power), 54 GND (power), 56 VCCINT (power), 64 VCCIO1 (power), 65 GND (power), 82 VCCIO2 (power), 83 GND (power), 90 VCCINT (power), 92 GND (power), 99 GND (power), 100 VCCIO2 (power), 115 GND (power), 116 VCCIO2 (power), 126 VCCINT (power), 128 GND (power), 135 GND (power), 136 VCCIO2 (power), 137 GND (power)
part A text: BANK 1
part B text: BANK 2

## 5M570ZT144C4N
designator U?
MAX V 1.8V CPLD, 114 IOs, 570 Logic Elements, 144-Pin TQFP, Commercial Temperature, Speed Grade 4, Pb-Free; DatasheetVersion: ver1.2, May-2011; PackageVersion: ver1.0, Jul-2011; PackageReference: TQFP144_A-160; PackageDescription: 144-Pin Plastic Thin Quad Flat Pack (TQFP) - Wire Bond - A:1.60; Code_JEDEC: MS-029-BFB; ComponentLink1Description: Manufacturer URL; ComponentLink1URL: http://www.altera.com/; ComponentLink2Description: Datasheet; ComponentLink2URL: http://www.altera.com/literature/hb/max-v/max5_handbook.pdf; ComponentLink3Description: MAX V Device Pin-Out files; ComponentLink3URL: http://www.altera.com/literature/lit-dp.jsp?category=MAX%205&showspreadsheet=y; ComponentLink4Description: Package Specification; ComponentLink4URL: http://www.altera.com/devicepackaging/04R00366-01.pdf
footprint TQFP144_A-160_N (Thin QFP, 144-Leads, Body 20x20mm, Pitch 0.5mm, IPC Medium Density)
footprint TQFP144_A-160_L (Thin QFP, 144-Leads, Body 20x20mm, Pitch 0.5mm, IPC High Density)
footprint TQFP144_A-160_M (Thin QFP, 144-Leads, Body 20x20mm, Pitch 0.5mm, IPC Low Density)
part A pins: 1 IO (io), 2 IO, DIFFIO_L1p (io), 3 IO, DIFFIO_L1n (io), 4 IO, DIFFIO_L2p (io), 5 IO, DIFFIO_L2n (io), 6 IO, DIFFIO_L3p (io), 7 IO, DIFFIO_L3n (io), 11 IO, DIFFIO_L4p (io), 12 IO, DIFFIO_L4n (io), 13 IO, DIFFIO_L5p (io), 14 IO, DIFFIO_L5n (io), 15 IO, DIFFIO_L6p (io), 16 IO, DIFFIO_L6n (io), 18 IO, CLK0 (io), 20 IO, CLK1 (io), 21 IO, DIFFIO_L7p (io), 22 IO, DIFFIO_L7n (io), 23 IO, DIFFIO_L8p (io), 24 IO, DIFFIO_L8n (io), 27 IO, DIFFIO_L9p (io), 28 IO, DIFFIO_L9n (io), 29 IO, DIFFIO_L10p (io), 30 IO, DIFFIO_L10n (io), 31 IO, DIFFIO_L11p (io), 32 IO, DIFFIO_L11n (io), 37 IO, DIFFIO_B1p (io), 38 IO, DIFFIO_B1n (io), 39 IO (io), 40 IO, DIFFIO_B2p (io), 41 IO, DIFFIO_B2n (io), 42 IO (io), 43 IO, DIFFIO_B3p (io), 44 IO, DIFFIO_B3n (io), 45 IO (io), 48 IO, DIFFIO_B4p (io), 49 IO, DIFFIO_B4n (io), 50 IO, DIFFIO_B5p (io), 51 IO, DIFFIO_B5n (io), 52 IO, DIFFIO_B6p (io), 53 IO, DIFFIO_B6n (io), 55 IO, DIFFIO_B7p (io), 57 IO, DIFFIO_B7n (io), 58 IO, DIFFIO_B8p (io), 59 IO, DIFFIO_B8n (io), 60 IO, DEV_OE, DIFFIO_B9p (io), 61 IO, DEV_CLRn, DIFFIO_B9n (io), 62 IO, DIFFIO_B10p (io), 63 IO, DIFFIO_B10n (io), 66 IO, DIFFIO_B11p (io), 67 IO, DIFFIO_B11n (io), 68 IO (io), 69 IO, DIFFIO_B12p (io), 70 IO, DIFFIO_B12n (io), 71 IO, DIFFIO_B13p (io), 72 IO, DIFFIO_B13n (io)
part B pins: 73 IO, DIFFIO_R12n (io), 74 IO, DIFFIO_R12p (io), 75 IO, DIFFIO_R11n (io), 76 IO, DIFFIO_R11p (io), 77 IO, DIFFIO_R10n (io), 78 IO, DIFFIO_R10p (io), 79 IO, DIFFIO_R9n (io), 80 IO, DIFFIO_R9p (io), 81 IO (io), 84 IO, DIFFIO_R8n (io), 85 IO, DIFFIO_R8p (io), 86 IO, DIFFIO_R7n (io), 87 IO, DIFFIO_R7p (io), 88 IO, DIFFIO_R6n (io), 89 IO, CLK2 (io), 91 IO, CLK3 (io), 93 IO, DIFFIO_R6p (io), 94 IO, DIFFIO_R5n (io), 95 IO, DIFFIO_R5p (io), 96 IO (io), 97 IO, DIFFIO_R4n (io), 98 IO, DIFFIO_R4p (io), 101 IO, DIFFIO_R3n (io), 102 IO, DIFFIO_R3p (io), 103 IO (io), 104 IO, DIFFIO_R2n (io), 105 IO, DIFFIO_R2p (io), 106 IO (io), 107 IO, DIFFIO_R1n (io), 108 IO, DIFFIO_R1p (io), 109 IO (io), 110 IO, DIFFIO_T13n (io), 111 IO, DIFFIO_T13p (io), 112 IO, DIFFIO_T12n (io), 113 IO, DIFFIO_T12p (io), 114 IO, DIFFIO_T11n (io), 117 IO, DIFFIO_T11p (io), 118 IO (io), 119 IO, DIFFIO_T10n (io), 120 IO, DIFFIO_T10p (io), 121 IO, DIFFIO_T9n (io), 122 IO, DIFFIO_T9p (io), 123 IO, DIFFIO_T8n (io), 124 IO, DIFFIO_T8p (io), 125 IO, DIFFIO_T7n (io), 127 IO, DIFFIO_T7p (io), 129 IO, DIFFIO_T6n (io), 130 IO, DIFFIO_T6p (io), 131 IO, DIFFIO_T5n (io), 132 IO, DIFFIO_T5p (io), 133 IO, DIFFIO_T4n (io), 134 IO, DIFFIO_T4p (io), 138 IO, DIFFIO_T3n (io), 139 IO, DIFFIO_T3p (io), 140 IO, DIFFIO_T2n (io), 141 IO, DIFFIO_T2p (io), 142 IO, DIFFIO_T1n (io), 143 IO, DIFFIO_T1p (io), 144 IO (io)
part C pins: 33 TMS (in), 34 TDI (in), 35 TCK (in), 36 TDO (out)
part D pins: 8 GND (power), 9 VCCIO1 (power), 10 GND (power), 17 GND (power), 19 VCCINT (power), 25 VCCIO1 (power), 26 GND (power), 46 VCCIO1 (power), 47 GND (power), 54 GND (power), 56 VCCINT (power), 64 VCCIO1 (power), 65 GND (power), 82 VCCIO2 (power), 83 GND (power), 90 VCCINT (power), 92 GND (power), 99 GND (power), 100 VCCIO2 (power), 115 GND (power), 116 VCCIO2 (power), 126 VCCINT (power), 128 GND (power), 135 GND (power), 136 VCCIO2 (power), 137 GND (power)
part A text: BANK 1
part B text: BANK 2

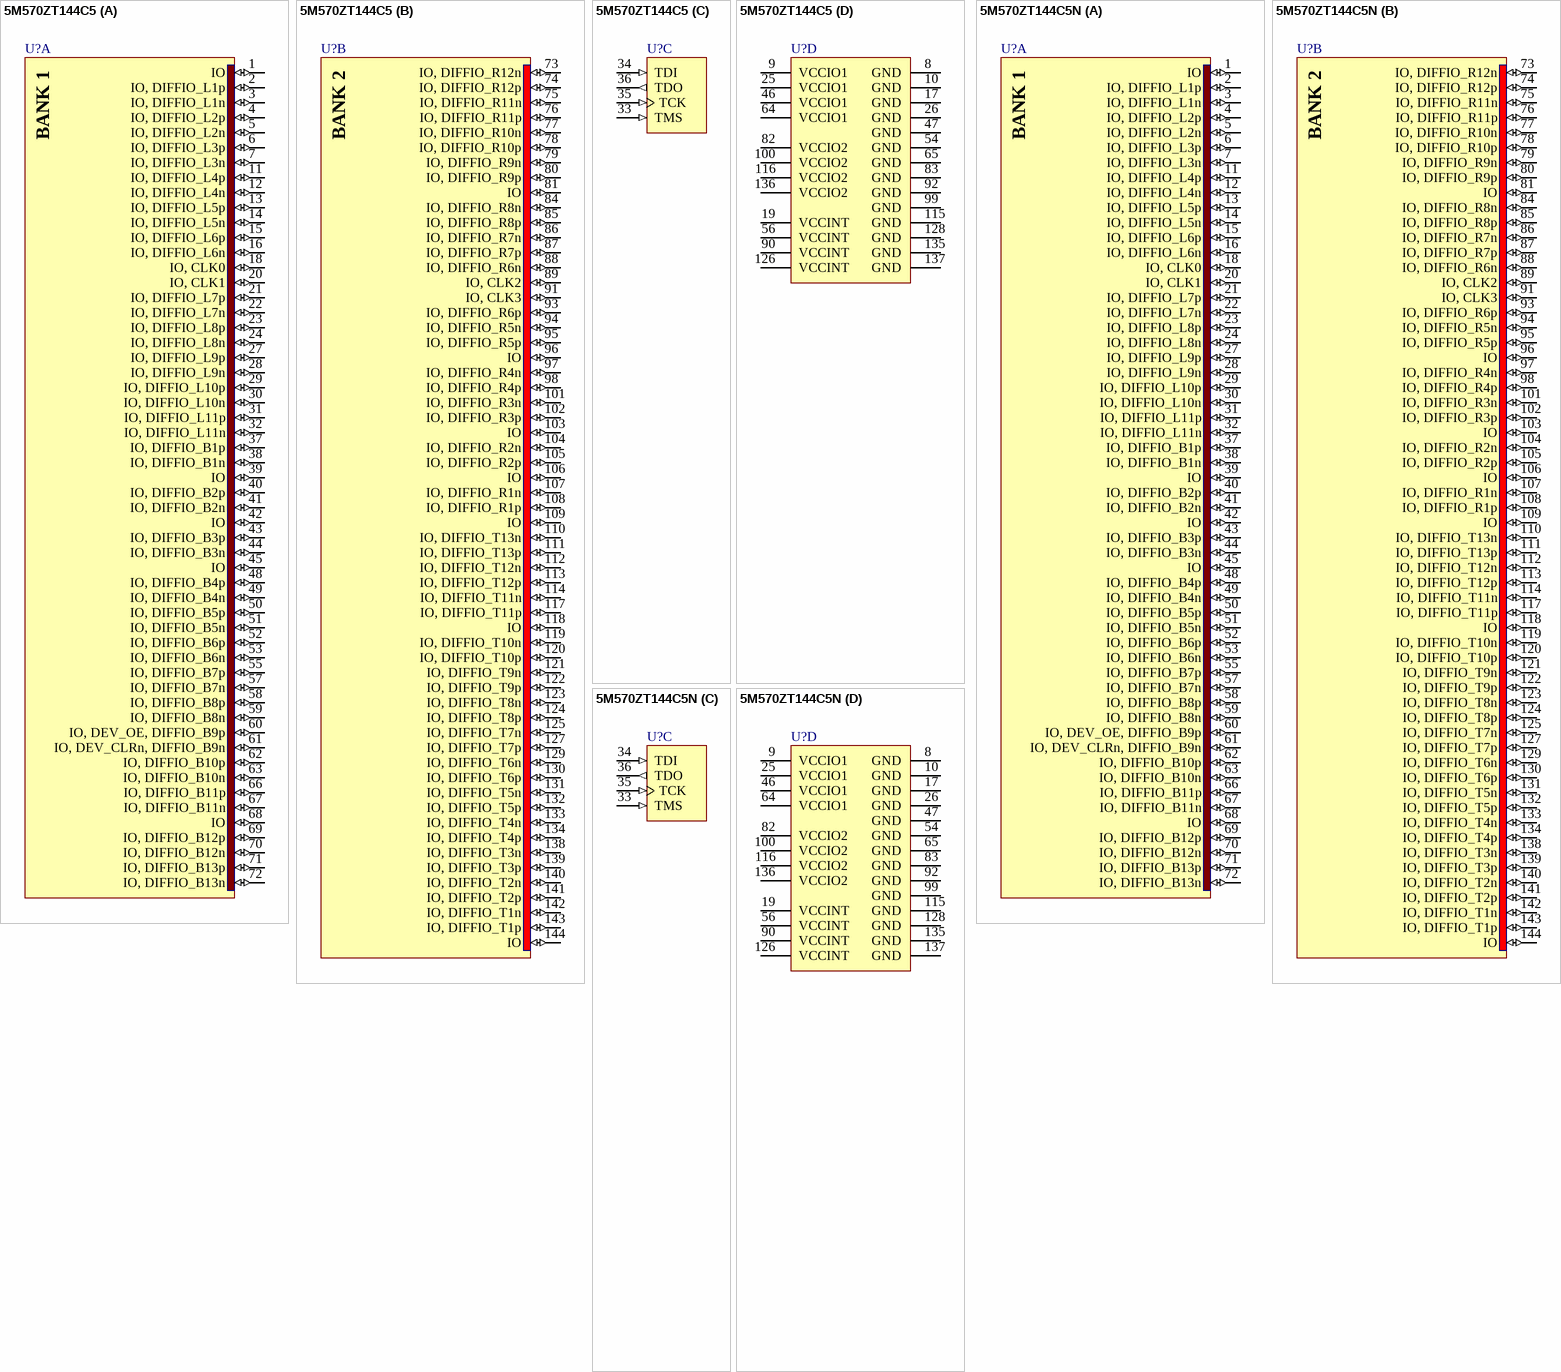
[diagram p41: symbols 5M570ZT144C5 to 5M570ZT144C5N]